# Altium integrated library Renesas Microprocessor SuperH.IntLib: 433 symbols (part 61 of 62)
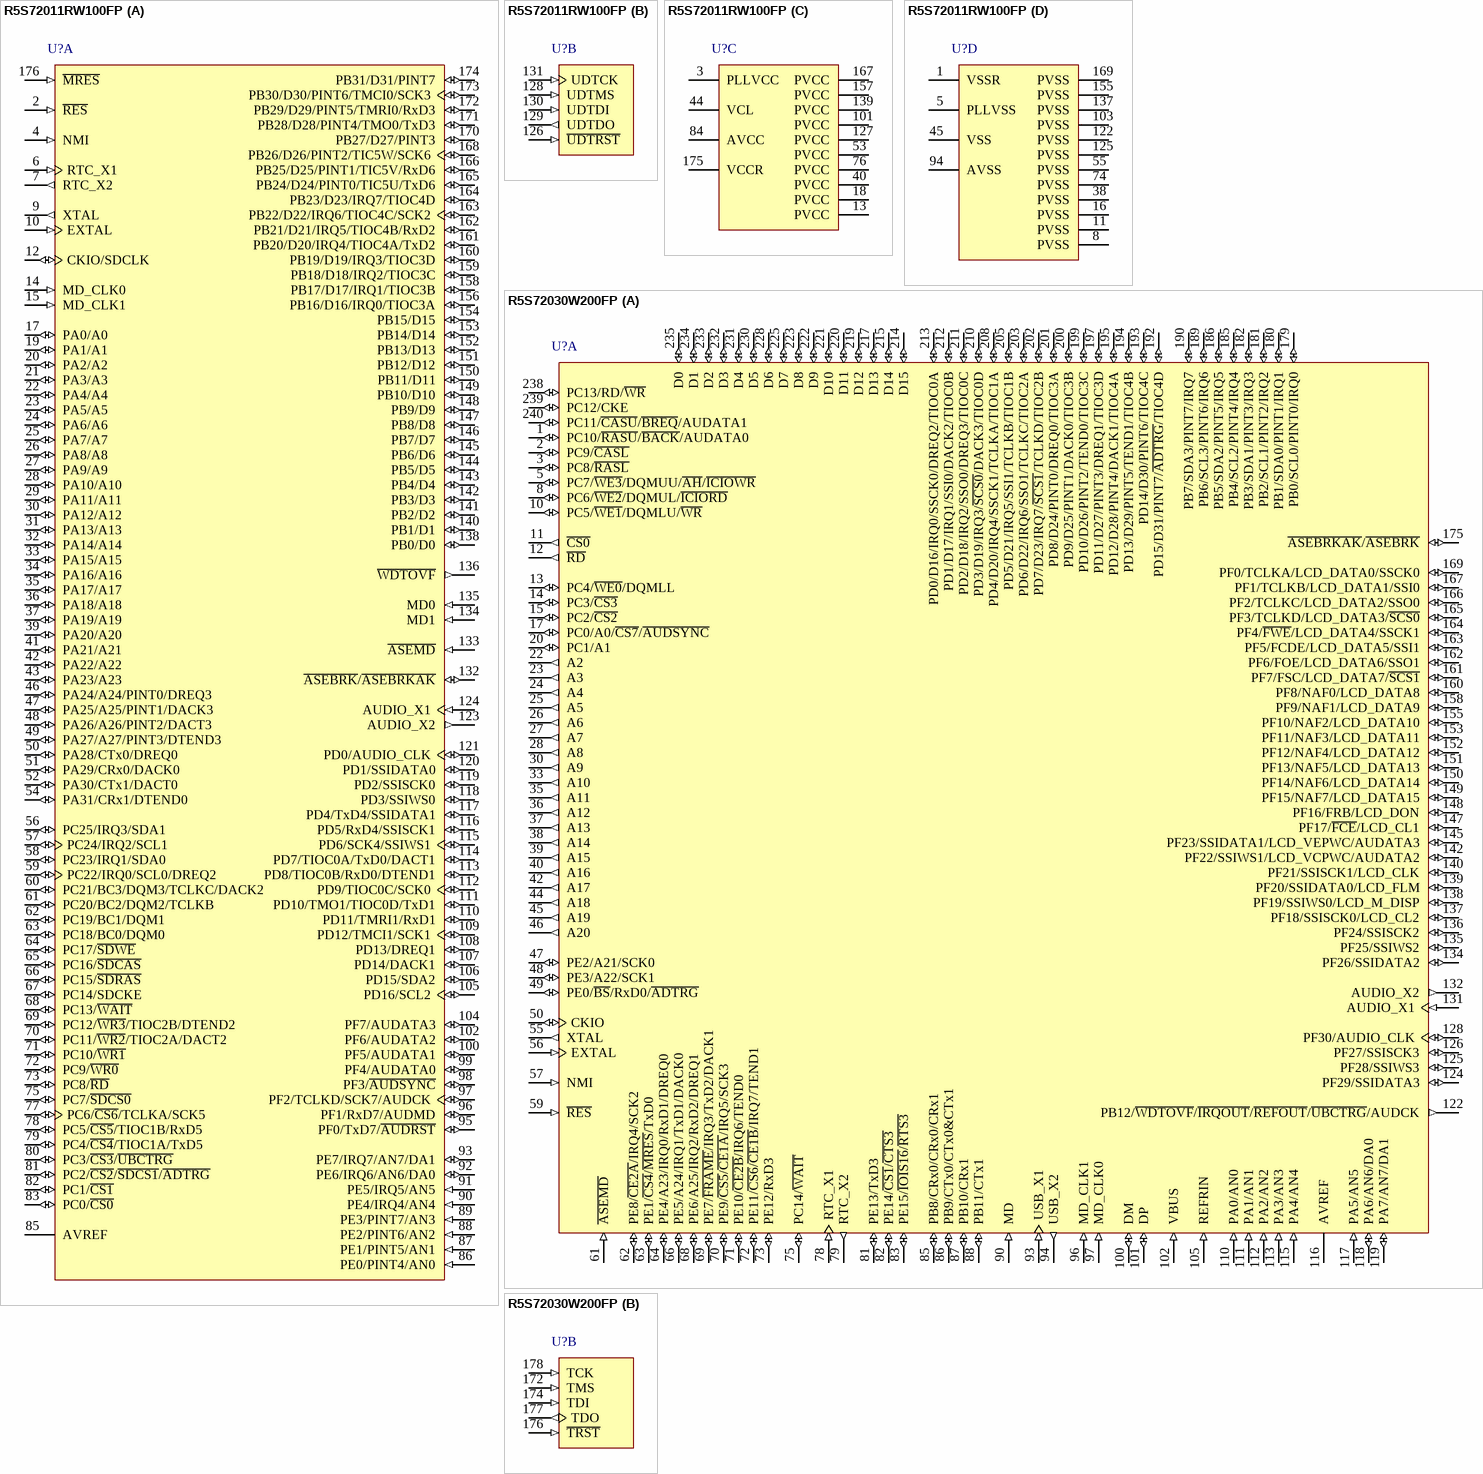
[diagram p316: symbols R5S72011RW100FP to R5S72030W200FP]

## R5S72011RW100FP
designator U?
32-Bit RISC Microcomputer, SH7200 Series, SH-2A core, 100MHz, 32K RAM, 24x24mm 176-pin PLQFP, -20 to 85°C; Published: 28-Aug-2009; DatasheetVersion: Rev.2.00, Sep-2007; PackageVersion: Oct-2005; PackageReference: PLQP0176KB-A; Publisher: Altium Limited; PackageDescription: 176-Pin Plastic Low Profile QFP, 24 x 24 x 1.4 mm Body, 0.5 mm Pitch; Code_JEITA: P-LQFP176-24x24-0.50; ComponentLink1Description: Manufacturer Link; ComponentLink1URL: http://www.renesas.com/fmwk.jsp?cnt=sh7201_root.jsp&fp=/products/mpumcu/superh_family/sh7200_series/sh7201_group/; ComponentLink2Description: Datasheet; ComponentLink2URL: http://documentation.renesas.com/eng/products/mpumcu/rej09b0321_sh7201hm.pdf; ComponentLink3Description: Packaging Specification; ComponentLink3URL: http://sg.renesas.com/media/products/common_info/package/pdf/ic/code/plqp0176kb_a.pdf
footprint PLQP0176KB-A_N (Shrink QFP, 176-Leads, Body 24x24mm, Pitch 0.5mm, IPC Medium Density)
footprint PLQP0176KB-A_L (Shrink QFP, 176-Leads, Body 24x24mm, Pitch 0.5mm, IPC High Density)
footprint PLQP0176KB-A_M (Shrink QFP, 176-Leads, Body 24x24mm, Pitch 0.5mm, IPC Low Density)
part A pins: 2 ~{RES} (in), 4 NMI (in), 6 RTC_X1 (in), 7 RTC_X2 (out), 9 XTAL (out), 10 EXTAL (in), 12 CKIO/SDCLK (io), 14 MD_CLK0 (in), 15 MD_CLK1 (in), 17 PA0/A0 (io), 19 PA1/A1 (io), 20 PA2/A2 (io), 21 PA3/A3 (io), 22 PA4/A4 (io), 23 PA5/A5 (io), 24 PA6/A6 (io), 25 PA7/A7 (io), 26 PA8/A8 (io), 27 PA9/A9 (io), 28 PA10/A10 (io), 29 PA11/A11 (io), 30 PA12/A12 (io), 31 PA13/A13 (io), 32 PA14/A14 (io), 33 PA15/A15 (io), 34 PA16/A16 (io), 35 PA17/A17 (io), 36 PA18/A18 (io), 37 PA19/A19 (io), 39 PA20/A20 (io), 41 PA21/A21 (io), 42 PA22/A22 (io), 43 PA23/A23 (io), 46 PA24/A24/PINT0/DREQ3 (io), 47 PA25/A25/PINT1/DACK3 (io), 48 PA26/A26/PINT2/DACT3 (io), 49 PA27/A27/PINT3/DTEND3 (io), 50 PA28/CTx0/DREQ0 (io), 51 PA29/CRx0/DACK0 (io), 52 PA30/CTx1/DACT0 (io), 54 PA31/CRx1/DTEND0 (io), 56 PC25/IRQ3/SDA1 (io), 57 PC24/IRQ2/SCL1 (io), 58 PC23/IRQ1/SDA0 (io), 59 PC22/IRQ0/SCL0/DREQ2 (io), 60 PC21/BC3/DQM3/TCLKC/DACK2 (io), 61 PC20/BC2/DQM2/TCLKB (io), 62 PC19/BC1/DQM1 (io), 63 PC18/BC0/DQM0 (io), 64 PC17/~{SDWE} (io), 65 PC16/~{SDCAS} (io), 66 PC15/~{SDRAS} (io), 67 PC14/SDCKE (io), 68 PC13/~{WAIT} (io), 69 PC12/~{WR3}/TIOC2B/DTEND2 (io), 70 PC11/~{WR2}/TIOC2A/DACT2 (io), 71 PC10/~{WR1} (io), 72 PC9/~{WR0} (io), 73 PC8/~{RD} (io), 75 PC7/~{SDCS0} (io), 77 PC6/~{CS6}/TCLKA/SCK5 (io), 78 PC5/~{CS5}/TIOC1B/RxD5 (io), 79 PC4/~{CS4}/TIOC1A/TxD5 (io), 80 PC3/~{CS3}/~{UBCTRG} (io), 81 PC2/~{CS2}/~{SDCS1}/~{ADTRG} (io), 82 PC1/~{CS1} (io), 83 PC0/~{CS0} (io), 85 AVREF (power), 86 PE0/PINT4/AN0 (in), 87 PE1/PINT5/AN1 (in), 88 PE2/PINT6/AN2 (in), 89 PE3/PINT7/AN3 (in), 90 PE4/IRQ4/AN4 (in), 91 PE5/IRQ5/AN5 (in), 92 PE6/IRQ6/AN6/DA0 (io), 93 PE7/IRQ7/AN7/DA1 (io), 95 PF0/TxD7/~{AUDRST} (io), 96 PF1/RxD7/AUDMD (io), 97 PF2/TCLKD/SCK7/AUDCK (io), 98 PF3/~{AUDSYNC} (io), 99 PF4/AUDATA0 (io), 100 PF5/AUDATA1 (io), 102 PF6/AUDATA2 (io), 104 PF7/AUDATA3 (io), 105 PD16/SCL2 (io), 106 PD15/SDA2 (io), 107 PD14/DACK1 (io), 108 PD13/DREQ1 (io), 109 PD12/TMCI1/SCK1 (io), 110 PD11/TMRI1/RxD1 (io), 111 PD10/TMO1/TIOC0D/TxD1 (io), 112 PD9/TIOC0C/SCK0 (io), 113 PD8/TIOC0B/RxD0/DTEND1 (io), 114 PD7/TIOC0A/TxD0/DACT1 (io), 115 PD6/SCK4/SSIWS1 (io), 116 PD5/RxD4/SSISCK1 (io), 117 PD4/TxD4/SSIDATA1 (io), 118 PD3/SSIWS0 (io), 119 PD2/SSISCK0 (io), 120 PD1/SSIDATA0 (io), 121 PD0/AUDIO_CLK (io), 123 AUDIO_X2 (out), 124 AUDIO_X1 (in), 132 ~{ASEBRK}/~{ASEBRKAK} (io), 133 ~{ASEMD} (in), 134 MD1 (in), 135 MD0 (in), 136 ~{WDTOVF} (out), 138 PB0/D0 (io), 140 PB1/D1 (io), 141 PB2/D2 (io), 142 PB3/D3 (io), 143 PB4/D4 (io), 144 PB5/D5 (io), 145 PB6/D6 (io), 146 PB7/D7 (io), 147 PB8/D8 (io), 148 PB9/D9 (io), 149 PB10/D10 (io), 150 PB11/D11 (io), 151 PB12/D12 (io), 152 PB13/D13 (io), 153 PB14/D14 (io), 154 PB15/D15 (io), 156 PB16/D16/IRQ0/TIOC3A (io), 158 PB17/D17/IRQ1/TIOC3B (io), 159 PB18/D18/IRQ2/TIOC3C (io), 160 PB19/D19/IRQ3/TIOC3D (io), 161 PB20/D20/IRQ4/TIOC4A/TxD2 (io), 162 PB21/D21/IRQ5/TIOC4B/RxD2 (io), 163 PB22/D22/IRQ6/TIOC4C/SCK2 (io), 164 PB23/D23/IRQ7/TIOC4D (io), 165 PB24/D24/PINT0/TIC5U/TxD6 (io), 166 PB25/D25/PINT1/TIC5V/RxD6 (io), 168 PB26/D26/PINT2/TIC5W/SCK6 (io), 170 PB27/D27/PINT3 (io), 171 PB28/D28/PINT4/TMO0/TxD3 (io), 172 PB29/D29/PINT5/TMRI0/RxD3 (io), 173 PB30/D30/PINT6/TMCI0/SCK3 (io), 174 PB31/D31/PINT7 (io), 176 ~{MRES} (in)
part B pins: 126 ~{UDTRST} (in), 128 UDTMS (in), 129 UDTDO (out), 130 UDTDI (in), 131 UDTCK (in)
part C pins: 3 PLLVCC (power), 13 PVCC (power), 18 PVCC (power), 40 PVCC (power), 44 VCL (power), 53 PVCC (power), 76 PVCC (power), 84 AVCC (power), 101 PVCC (power), 127 PVCC (power), 139 PVCC (power), 157 PVCC (power), 167 PVCC (power), 175 VCCR (power)
part D pins: 1 VSSR (power), 5 PLLVSS (power), 8 PVSS (power), 11 PVSS (power), 16 PVSS (power), 38 PVSS (power), 45 VSS (power), 55 PVSS (power), 74 PVSS (power), 94 AVSS (power), 103 PVSS (power), 122 PVSS (power), 125 PVSS (power), 137 PVSS (power), 155 PVSS (power), 169 PVSS (power)

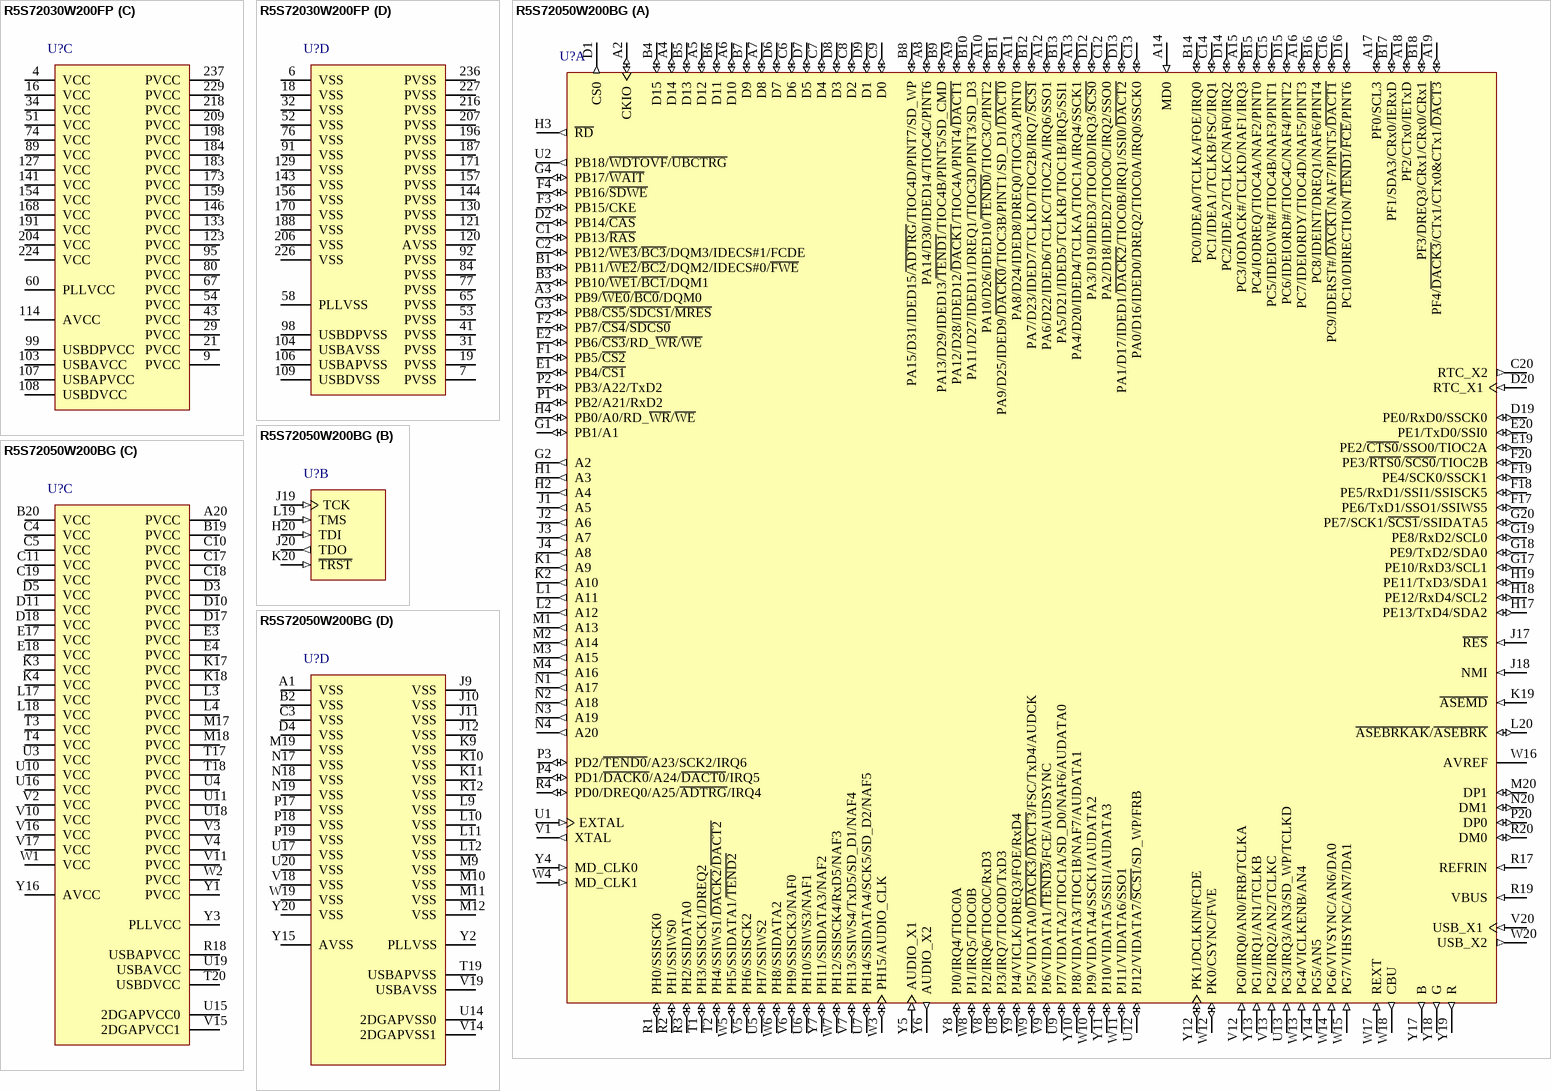
[diagram p205: symbols R5S72030W200FP to R5S72050W200BG]

## R5S72030W200FP
designator U?
32-Bit RISC Microcomputer, SH7200 Series, SH2A-FPU core, 200MHz, 80K RAM, 240-pin PQFP, -20 to 85°C; Published: 28-Aug-2009; LatestRevisionDate: 15-Feb-2010; LatestRevisionNote: Updated to datasheet revision 3.00 Sep-2009.; DatasheetVersion: Rev.3.00, Sep-2009; PackageVersion: Sep-2005; PackageReference: PRQP0240KC-A; Publisher: Altium Limited; PackageDescription: 240-Pin Plastic Quad Flat Pack, 32 x 32 x 3.2 mm Body, 0.5 mm Pitch; Supplier 1: Digi-Key; Supplier Part Number 1: R5S72030W200FP-ND; Code_JEITA: P-QFP240-32x32-0.50; ComponentLink1Description: Manufacturer Link; ComponentLink1URL: http://www.renesas.com/fmwk.jsp?cnt=sh7203_root.jsp&fp=/products/mpumcu/superh_family/sh7200_series/sh7203_group/; ComponentLink2Description: Datasheet; ComponentLink2URL: http://documentation.renesas.com/eng/products/mpumcu/rej09b0313_sh7203hm.pdf; ComponentLink3Description: Packaging Specification; ComponentLink3URL: http://sg.renesas.com/media/products/common_info/package/pdf/ic/code/prqp0240kc_a.pdf
footprint PRQP0240KC-A_N (Shrink QFP, 240-Leads, Body 32x32mm, Pitch 0.5mm, IPC Medium Density)
footprint PRQP0240KC-A_L (Shrink QFP, 240-Leads, Body 32x32mm, Pitch 0.5mm, IPC High Density)
footprint PRQP0240KC-A_M (Shrink QFP, 240-Leads, Body 32x32mm, Pitch 0.5mm, IPC Low Density)
part A pins: 1 PC10/~{RASU}/~{BACK}/AUDATA0 (io), 2 PC9/~{CASL} (io), 3 PC8/~{RASL} (io), 5 PC7/~{WE3}/DQMUU/~{AH}/~{ICIOWR} (io), 8 PC6/~{WE2}/DQMUL/~{ICIORD} (io), 10 PC5/~{WE1}/DQMLU/~{WR} (io), 11 ~{CS0} (out), 12 ~{RD} (out), 13 PC4/~{WE0}/DQMLL (io), 14 PC3/~{CS3} (io), 15 PC2/~{CS2} (io), 17 PC0/A0/~{CS7}/~{AUDSYNC} (io), 20 PC1/A1 (io), 22 A2 (out), 23 A3 (out), 24 A4 (out), 25 A5 (out), 26 A6 (out), 27 A7 (out), 28 A8 (out), 30 A9 (out), 33 A10 (out), 35 A11 (out), 36 A12 (out), 37 A13 (out), 38 A14 (out), 39 A15 (out), 40 A16 (out), 42 A17 (out), 44 A18 (out), 45 A19 (out), 46 A20 (out), 47 PE2/A21/SCK0 (io), 48 PE3/A22/SCK1 (io), 49 PE0/~{BS}/RxD0/~{ADTRG} (io), 50 CKIO (io), 55 XTAL (out), 56 EXTAL (in), 57 NMI (in), 59 ~{RES} (in), 61 ~{ASEMD} (in), 62 PE8/~{CE2A}/IRQ4/SCK2 (io), 63 PE1/~{CS4}/~{MRES}/TxD0 (io), 64 PE4/A23/IRQ0/RxD1/DREQ0 (io), 66 PE5/A24/IRQ1/TxD1/DACK0 (io), 68 PE6/A25/IRQ2/RxD2/DREQ1 (io), 69 PE7/~{FRAME}/IRQ3/TxD2/DACK1 (io), 70 PE9/~{CS5}/~{CE1A}/IRQ5/SCK3 (io), 71 PE10/~{CE2B}/IRQ6/TEND0 (io), 72 PE11/~{CS6}/~{CE1B}/IRQ7/TEND1 (io), 73 PE12/RxD3 (io), 75 PC14/~{WAIT} (io), 78 RTC_X1 (in), 79 RTC_X2 (out), 81 PE13/TxD3 (io), 82 PE14/~{CS1}/~{CTS3} (io), 83 PE15/~{IOIS16}/~{RTS3} (io), 85 PB8/CRx0/CRx0/CRx1 (io), 86 PB9/CTx0/CTx0&CTx1 (io), 87 PB10/CRx1 (io), 88 PB11/CTx1 (io), 90 MD (in), 93 USB_X1 (in), 94 USB_X2 (out), 96 MD_CLK1 (in), 97 MD_CLK0 (in), 100 DM (io), 101 DP (io), 102 VBUS (in), 105 REFRIN (in), 110 PA0/AN0 (in), 111 PA1/AN1 (in), 112 PA2/AN2 (in), 113 PA3/AN3 (in), 115 PA4/AN4 (in), 116 AVREF (power), 117 PA5/AN5 (in), 118 PA6/AN6/DA0 (io), 119 PA7/AN7/DA1 (io), 122 PB12/~{WDTOVF}/~{IRQOUT}/~{REFOUT}/~{UBCTRG}/AUDCK (out), 124 PF29/SSIDATA3 (io), 125 PF28/SSIWS3 (io), 126 PF27/SSISCK3 (io), 128 PF30/AUDIO_CLK (io), 131 AUDIO_X1 (in), 132 AUDIO_X2 (out), 134 PF26/SSIDATA2 (io), 135 PF25/SSIWS2 (io), 136 PF24/SSISCK2 (io), 137 PF18/SSISCK0/LCD_CL2 (io), 138 PF19/SSIWS0/LCD_M_DISP (io), 139 PF20/SSIDATA0/LCD_FLM (io), 140 PF21/SSISCK1/LCD_CLK (io), 142 PF22/SSIWS1/LCD_VCPWC/AUDATA2 (io), 145 PF23/SSIDATA1/LCD_VEPWC/AUDATA3 (io), 147 PF17/~{FCE}/LCD_CL1 (io), 148 PF16/FRB/LCD_DON (io), 149 PF15/NAF7/LCD_DATA15 (io), 150 PF14/NAF6/LCD_DATA14 (io), 151 PF13/NAF5/LCD_DATA13 (io), 152 PF12/NAF4/LCD_DATA12 (io), 153 PF11/NAF3/LCD_DATA11 (io), 155 PF10/NAF2/LCD_DATA10 (io), 158 PF9/NAF1/LCD_DATA9 (io), 160 PF8/NAF0/LCD_DATA8 (io), 161 PF7/FSC/LCD_DATA7/~{SCS1} (io), 162 PF6/FOE/LCD_DATA6/SSO1 (io), 163 PF5/FCDE/LCD_DATA5/SSI1 (io), 164 PF4/~{FWE}/LCD_DATA4/SSCK1 (io), 165 PF3/TCLKD/LCD_DATA3/~{SCS0} (io), 166 PF2/TCLKC/LCD_DATA2/SSO0 (io), 167 PF1/TCLKB/LCD_DATA1/SSI0 (io), 169 PF0/TCLKA/LCD_DATA0/SSCK0 (io), 175 ~{ASEBRKAK}/~{ASEBRK} (io), 179 PB0/SCL0/PINT0/IRQ0 (io), 180 PB1/SDA0/PINT1/IRQ1 (io), 181 PB2/SCL1/PINT2/IRQ2 (io), 182 PB3/SDA1/PINT3/IRQ3 (io), 185 PB4/SCL2/PINT4/IRQ4 (io), 186 PB5/SDA2/PINT5/IRQ5 (io), 189 PB6/SCL3/PINT6/IRQ6 (io), 190 PB7/SDA3/PINT7/IRQ7 (io), 192 PD15/D31/PINT7/~{ADTRG}/TIOC4D (io), 193 PD14/D30/PINT6/TIOC4C (io), 194 PD13/D29/PINT5/TEND1/TIOC4B (io), 195 PD12/D28/PINT4/DACK1/TIOC4A (io), 197 PD11/D27/PINT3/DREQ1/TIOC3D (io), 199 PD10/D26/PINT2/TEND0/TIOC3C (io), 200 PD9/D25/PINT1/DACK0/TIOC3B (io), 201 PD8/D24/PINT0/DREQ0/TIOC3A (io), 202 PD7/D23/IRQ7/~{SCS1}/TCLKD/TIOC2B (io), 203 PD6/D22/IRQ6/SSO1/TCLKC/TIOC2A (io), 205 PD5/D21/IRQ5/SSI1/TCLKB/TIOC1B (io), 208 PD4/D20/IRQ4/SSCK1/TCLKA/TIOC1A (io), 210 PD3/D19/IRQ3/~{SCS0}/DACK3/TIOC0D (io), 211 PD2/D18/IRQ2/SSO0/DREQ3/TIOC0C (io), 212 PD1/D17/IRQ1/SSI0/DACK2/TIOC0B (io), 213 PD0/D16/IRQ0/SSCK0/DREQ2/TIOC0A (io), 214 D15 (io), 215 D14 (io), 217 D13 (io), 219 D12 (io), 220 D11 (io), 221 D10 (io), 222 D9 (io), 223 D8 (io), 225 D7 (io), 228 D6 (io), 230 D5 (io), 231 D4 (io), 232 D3 (io), 233 D2 (io), 234 D1 (io), 235 D0 (io), 238 PC13/RD/~{WR} (io), 239 PC12/CKE (io), 240 PC11/~{CASU}/~{BREQ}/AUDATA1 (io)
part B pins: 172 TMS (in), 174 TDI (in), 176 ~{TRST} (in), 177 TDO (out), 178 TCK (in)
part C pins: 4 VCC (power), 9 PVCC (power), 16 VCC (power), 21 PVCC (power), 29 PVCC (power), 34 VCC (power), 43 PVCC (power), 51 VCC (power), 54 PVCC (power), 60 PLLVCC (power), 67 PVCC (power), 74 VCC (power), 80 PVCC (power), 89 VCC (power), 95 PVCC (power), 99 USBDPVCC (power), 103 USBAVCC (power), 107 USBAPVCC (power), 108 USBDVCC (power), 114 AVCC (power), 123 PVCC (power), 127 VCC (power), 133 PVCC (power), 141 VCC (power), 146 PVCC (power), 154 VCC (power), 159 PVCC (power), 168 VCC (power), 173 PVCC (power), 183 PVCC (power), 184 PVCC (power), 191 VCC (power), 198 PVCC (power), 204 VCC (power), 209 PVCC (power), 218 PVCC (power), 224 VCC (power), 229 PVCC (power), 237 PVCC (power)
part D pins: 6 VSS (power), 7 PVSS (power), 18 VSS (power), 19 PVSS (power), 31 PVSS (power), 32 VSS (power), 41 PVSS (power), 52 VSS (power), 53 PVSS (power), 58 PLLVSS (power), 65 PVSS (power), 76 VSS (power), 77 PVSS (power), 84 PVSS (power), 91 VSS (power), 92 PVSS (power), 98 USBDPVSS (power), 104 USBAVSS (power), 106 USBAPVSS (power), 109 USBDVSS (power), 120 AVSS (power), 121 PVSS (power), 129 VSS (power), 130 PVSS (power), 143 VSS (power), 144 PVSS (power), 156 VSS (power), 157 PVSS (power), 170 VSS (power), 171 PVSS (power), 187 PVSS (power), 188 VSS (power), 196 PVSS (power), 206 VSS (power), 207 PVSS (power), 216 PVSS (power), 226 VSS (power), 227 PVSS (power), 236 PVSS (power)

## R5S72050W200BG
designator U?
32-Bit RISC Microcomputer, SH7200 Series, SH2A-FPU core, 200MHz, 112K RAM, 272-pin BGA, -20 to 85°C; Published: 28-Aug-2009; DatasheetVersion: Rev.1.00, Mar-2008; PackageVersion: May-2007; PackageReference: PRBG0272GA-A; Publisher: Altium Limited; PackageDescription: 272-Ball Plastic Fine Pitch Ball Grid Array, 17 x 17 mm Body, 0.8 mm Pitch; Code_JEITA: P-FBGA272-17x17-0.80; ComponentLink1Description: Manufacturer Link; ComponentLink1URL: http://www.renesas.com/fmwk.jsp?cnt=sh7205_root.jsp&fp=/products/mpumcu/superh_family/sh7200_series/sh7205_group/; ComponentLink2Description: Datasheet; ComponentLink2URL: http://documentation.renesas.com/eng/products/mpumcu/rej09b0372_sh7205hm.pdf; ComponentLink3Description: Packaging Specification; ComponentLink3URL: http://sg.renesas.com/media/products/common_info/package/pdf/ic/code/prbg0272ga_a.pdf
footprint PRBG0272GA-A (BGA, 272-Leads, Body 17x17mm, Pitch 0.8mm)
part A pins: A2 CKIO (io), A3 PB9/~{WE0}/~{BC0}/DQM0 (io), A4 D14 (io), A5 D12 (io), A6 D10 (io), A7 D8 (io), A8 PA14/D30/IDED14/TIOC4C/PINT6 (io), A9 PA12/D28/IDED12/~{DACK1}/TIOC4A/PINT4/~{DACT1} (io), A10 PA10/D26/IDED10/~{TEND0}/TIOC3C/PINT2 (io), A11 PA8/D24/IDED8/DREQ0/TIOC3A/PINT0 (io), A12 PA6/D22/IDED6/TCLKC/TIOC2A/IRQ6/SSO1 (io), A13 PA4/D20/IDED4/TCLKA/TIOC1A/IRQ4/SSCK1 (io), A14 MD0 (in), A15 PC3/IODACK#/TCLKD/NAF1/IRQ3 (io), A16 PC7/IDEIORDY/TIOC4D/NAF5/PINT3 (io), A17 PF0/SCL3 (io), A18 PF2/CTx0/IETxD (io), A19 PF4/~{DACK3}/CTx1/CTx0&CTx1/~{DACT3} (io), B1 PB11/~{WE2}/~{BC2}/DQM2/IDECS#0/~{FWE} (io), B3 PB10/~{WE1}/~{BC1}/DQM1 (io), B4 D15 (io), B5 D13 (io), B6 D11 (io), B7 D9 (io), B8 PA15/D31/IDED15/~{ADTRG}/TIOC4D/PINT7/SD_WP (io), B9 PA13/D29/IDED13/~{TEND1}/TIOC4B/PINT5/SD_CMD (io), B10 PA11/D27/IDED11/DREQ1/TIOC3D/PINT3/SD_D3 (io), B11 PA9/D25/IDED9/~{DACK0}/TIOC3B/PINT1/SD_D1/~{DACT0} (io), B12 PA7/D23/IDED7/TCLKD/TIOC2B/IRQ7/~{SCS1} (io), B13 PA5/D21/IDED5/TCLKB/TIOC1B/IRQ5/SSI1 (io), B14 PC0/IDEA0/TCLKA/FOE/IRQ0 (io), B15 PC4/IODREQ/TIOC4A/NAF2/PINT0 (io), B16 PC8/IDEINT/DREQ1/NAF6/PINT4 (io), B17 PF1/SDA3/CRx0/IERxD (io), B18 PF3/DREQ3/CRx1/CRx0/CRx1 (io), C1 PB13/~{RAS} (io), C2 PB12/~{WE3}/~{BC3}/DQM3/IDECS#1/FCDE (io), C6 D6 (io), C7 D4 (io), C8 D2 (io), C9 D0 (io), C12 PA2/D18/IDED2/TIOC0C/IRQ2/SSO0 (io), C13 PA0/D16/IDED0/DREQ2/TIOC0A/IRQ0/SSCK0 (io), C14 PC1/IDEA1/TCLKB/FSC/IRQ1 (io), C15 PC5/IDEIOWR#/TIOC4B/NAF3/PINT1 (io), C16 PC9/IDERST#/~{DACK1}/NAF7/PINT5/~{DACT1} (io), C20 RTC_X2 (out), D1 CS0 (out), D2 PB14/~{CAS} (io), D6 D7 (io), D7 D5 (io), D8 D3 (io), D9 D1 (io), D12 PA3/D19/IDED3/TIOC0D/IRQ3/~{SCS0} (io), D13 PA1/D17/IDED1/~{DACK2}/TIOC0B/IRQ1/SSI0/~{DACT2} (io), D14 PC2/IDEA2/TCLKC/NAF0/IRQ2 (io), D15 PC6/IDEIORD#/TIOC4C/NAF4/PINT2 (io), D16 PC10/DIRECTION/~{TEND1}/~{FCE}/PINT6 (io), D19 PE0/RxD0/SSCK0 (io), D20 RTC_X1 (in), E1 PB4/~{CS1} (io), E2 PB6/~{CS3}/RD_~{WR}/~{WE} (io), E19 PE2/~{CTS0}/SSO0/TIOC2A (io), E20 PE1/TxD0/SSI0 (io), F1 PB5/~{CS2} (io), F2 PB7/~{CS4}/~{SDCS0} (io), F3 PB15/CKE (io), F4 PB16/~{SDWE} (io), F17 PE6/TxD1/SSO1/SSIWS5 (io), F18 PE5/RxD1/SSI1/SSISCK5 (io), F19 PE4/SCK0/SSCK1 (io), F20 PE3/~{RTS0}/~{SCS0}/TIOC2B (io), G1 PB1/A1 (io), G2 A2 (out), G3 PB8/~{CS5}/~{SDCS1}/~{MRES} (io), G4 PB17/~{WAIT} (io), G17 PE10/RxD3/SCL1 (io), G18 PE9/TxD2/SDA0 (io), G19 PE8/RxD2/SCL0 (io), G20 PE7/SCK1/~{SCS1}/SSIDATA5 (io), H1 A3 (out), H2 A4 (out), H3 ~{RD} (out), H4 PB0/A0/RD_~{WR}/~{WE} (io), H17 PE13/TxD4/SDA2 (io), H18 PE12/RxD4/SCL2 (io), H19 PE11/TxD3/SDA1 (io), J1 A5 (out), J2 A6 (out), J3 A7 (out), J4 A8 (out), J17 ~{RES} (in), J18 NMI (in), K1 A9 (out), K2 A10 (out), K19 ~{ASEMD} (in), L1 A11 (out), L2 A12 (out), L20 ~{ASEBRKAK}/~{ASEBRK} (io), M1 A13 (out), M2 A14 (out), M3 A15 (out), M4 A16 (out), M20 DP1 (io), N1 A17 (out), N2 A18 (out), N3 A19 (out), N4 A20 (out), N20 DM1 (io), P1 PB2/A21/RxD2 (io), P2 PB3/A22/TxD2 (io), P3 PD2/~{TEND0}/A23/SCK2/IRQ6 (io), P4 PD1/~{DACK0}/A24/~{DACT0}/IRQ5 (io), P20 DP0 (io), R1 PH0/SSISCK0 (io), R2 PH1/SSIWS0 (io), R3 PH2/SSIDATA0 (io), R4 PD0/DREQ0/A25/~{ADTRG}/IRQ4 (io), R17 REFRIN (in), R19 VBUS (in), R20 DM0 (io), T1 PH3/SSISCK1/DREQ2 (io), T2 PH4/SSIWS1/~{DACK2}/~{DACT2} (io), U1 EXTAL (in), U2 PB18/~{WDTOVF}/~{UBCTRG} (out), U5 PH7/SSIWS2 (io), U6 PH10/SSIWS3/NAF1 (io), U7 PH14/SSIDATA4/SCK5/SD_D2/NAF5 (io), U8 PJ3/IRQ7/TIOC0D/TxD3 (io), U9 PJ7/VIDATA2/TIOC1A/SD_D0/NAF6/AUDATA0 (io), U12 PJ12/VIDATA7/~{SCS1}/SD_WP/FRB (io), U13 PG3/IRQ3/AN3/SD_WP/TCLKD (in), V1 XTAL (out), V5 PH6/SSISCK2 (io), V6 PH9/SSISCK3/NAF0 (io), V7 PH13/SSIWS4/TxD5/SD_D1/NAF4 (io), V8 PJ2/IRQ6/TIOC0C/RxD3 (io), V9 PJ6/VIDATA1/~{TEND3}/FCE/AUDSYNC (io), V12 PG0/IRQ0/AN0/FRB/TCLKA (in), V13 PG2/IRQ2/AN2/TCLKC (in), V20 USB_X1 (in), W3 PH15/AUDIO_CLK (io), W4 MD_CLK1 (in), W5 PH5/SSIDATA1/~{TEND2} (io), W6 PH8/SSIDATA2 (io), W7 PH12/SSISCK4/RxD5/NAF3 (io), W8 PJ1/IRQ5/TIOC0B (io), W9 PJ5/VIDATA0/~{DACK3}/~{DACT3}/FSC/TxD4/AUDCK (io), W10 PJ9/VIDATA4/SSCK1/AUDATA2 (io), W11 PJ11/VIDATA6/SSO1 (io), W12 PK0/CSYNC/FWE (io), W13 PG4/VICLKENB/AN4 (in), W14 PG6/VIVSYNC/AN6/DA0 (in), W15 PG7/VIHSYNC/AN7/DA1 (in), W16 AVREF (power), W17 REXT (in), W18 CBU (out), W20 USB_X2 (out), Y4 MD_CLK0 (in), Y5 AUDIO_X1 (in), Y6 AUDIO_X2 (out), Y7 PH11/SSIDATA3/NAF2 (io), Y8 PJ0/IRQ4/TIOC0A (io), Y9 PJ4/VICLK/DREQ3/FOE/RxD4 (io), Y10 PJ8/VIDATA3/TIOC1B/NAF7/AUDATA1 (io), Y11 PJ10/VIDATA5/SSI1/AUDATA3 (io), Y12 PK1/DCLKIN/FCDE (io), Y13 PG1/IRQ1/AN1/TCLKB (in), Y14 PG5/AN5 (in), Y17 B (out), Y18 G (out), Y19 R (out)
part B pins: H20 TDI (in), J19 TCK (in), J20 TDO (out), K20 ~{TRST} (in), L19 TMS (in)
part C pins: A20 PVCC (power), B19 PVCC (power), B20 VCC (power), C4 VCC (power), C5 VCC (power), C10 PVCC (power), C11 VCC (power), C17 PVCC (power), C18 PVCC (power), C19 VCC (power), D3 PVCC (power), D5 VCC (power), D10 PVCC (power), D11 VCC (power), D17 PVCC (power), D18 VCC (power), E3 PVCC (power), E4 PVCC (power), E17 VCC (power), E18 VCC (power), K3 VCC (power), K4 VCC (power), K17 PVCC (power), K18 PVCC (power), L3 PVCC (power), L4 PVCC (power), L17 VCC (power), L18 VCC (power), M17 PVCC (power), M18 PVCC (power), R18 USBAPVCC (power), T3 VCC (power), T4 VCC (power), T17 PVCC (power), T18 PVCC (power), T20 USBDVCC (power), U3 VCC (power), U4 PVCC (power), U10 VCC (power), U11 PVCC (power), U15 2DGAPVCC0 (power), U16 VCC (power), U18 PVCC (power), U19 USBAVCC (power), V2 VCC (power), V3 PVCC (power), V4 PVCC (power), V10 VCC (power), V11 PVCC (power), V15 2DGAPVCC1 (power), V16 VCC (power), V17 VCC (power), W1 VCC (power), W2 PVCC (power), Y1 PVCC (power), Y3 PLLVCC (power), Y16 AVCC (power)
part D pins: A1 VSS (power), B2 VSS (power), C3 VSS (power), D4 VSS (power), J9 VSS (power), J10 VSS (power), J11 VSS (power), J12 VSS (power), K9 VSS (power), K10 VSS (power), K11 VSS (power), K12 VSS (power), L9 VSS (power), L10 VSS (power), L11 VSS (power), L12 VSS (power), M9 VSS (power), M10 VSS (power), M11 VSS (power), M12 VSS (power), M19 VSS (power), N17 VSS (power), N18 VSS (power), N19 VSS (power), P17 VSS (power), P18 VSS (power), P19 VSS (power), T19 USBAPVSS (power), U14 2DGAPVSS0 (power), U17 VSS (power), U20 VSS (power), V14 2DGAPVSS1 (power), V18 VSS (power), V19 USBAVSS (power), W19 VSS (power), Y2 PLLVSS (power), Y15 AVSS (power), Y20 VSS (power)

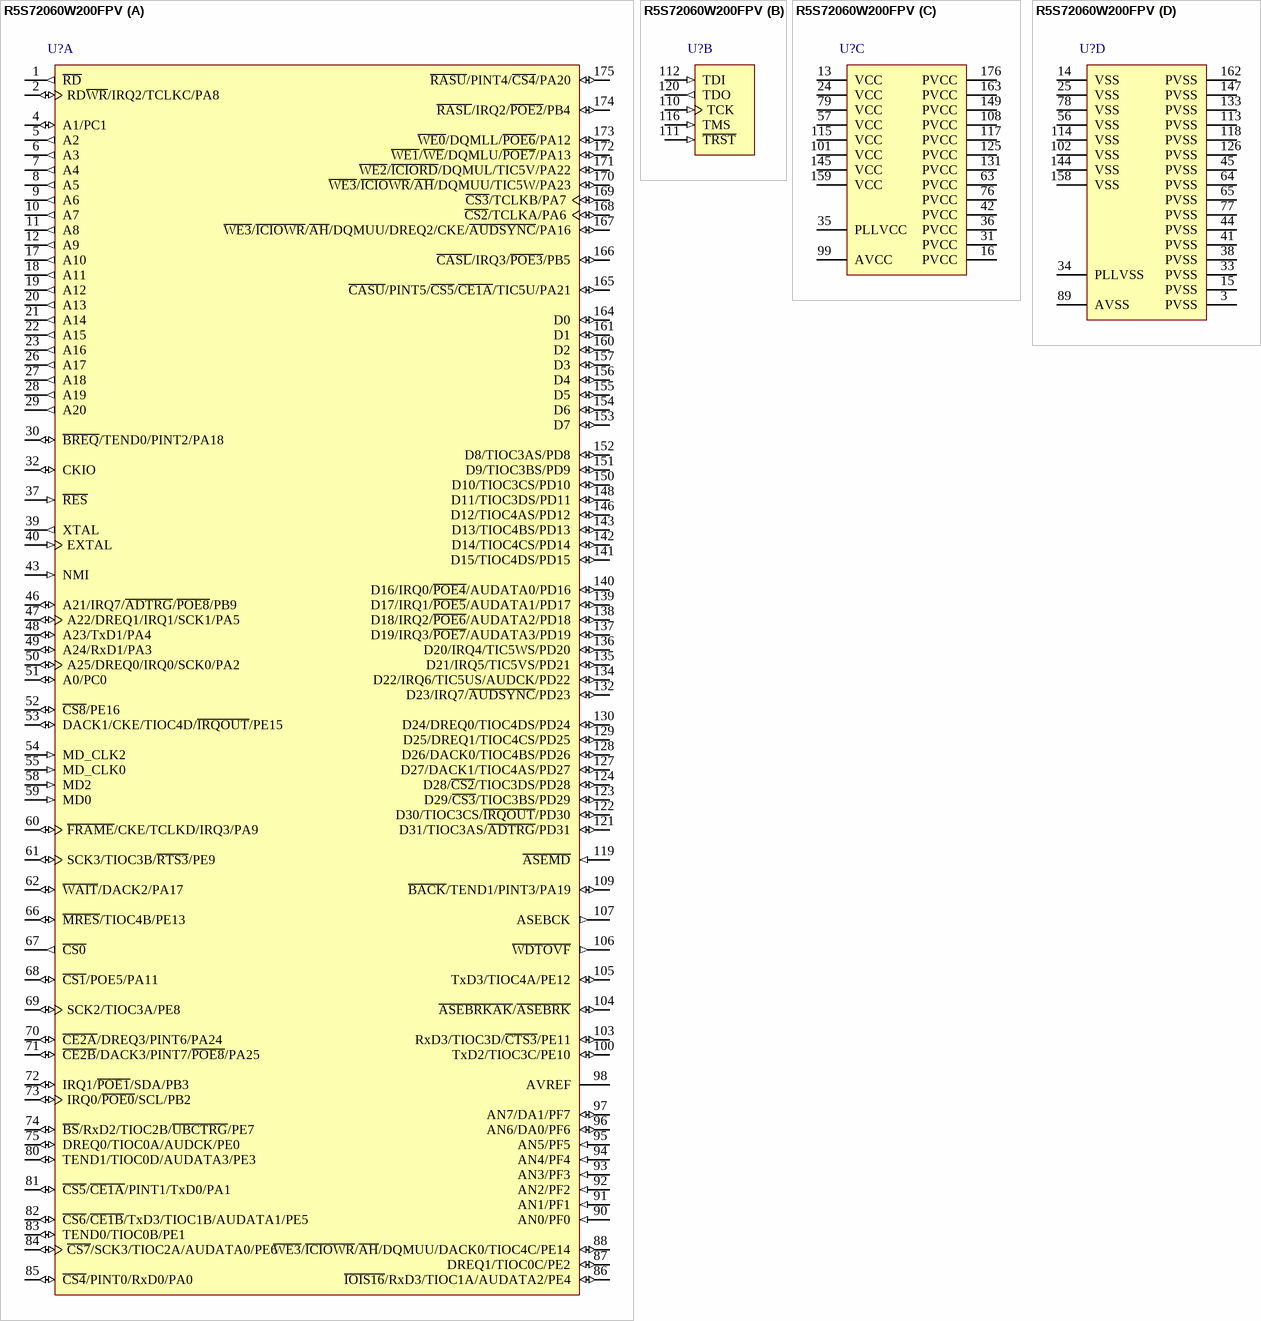
[diagram p206: symbol R5S72060W200FPV]

## R5S72060W200FPV
designator U?
32-Bit RISC Microcomputer, SH7200 Series, SH-2A core, 200MHz, 128K RAM, 176-pin LQFP, -20 to 85°C; Published: 28-Aug-2009; DatasheetVersion: Rev.3.00, Jun-2008; PackageVersion: Sep-2005; PackageReference: PLQP0176KD-A; Publisher: Altium Limited; PackageDescription: 176-Pin Plastic Low Profile QFP, 24 x 24 x 1.4 mm Body, 0.5 mm Pitch; Supplier 1: Farnell; Supplier Part Number 1: 1172315; Code_JEITA: P-LQFP176-24x24-0.50; ComponentLink1Description: Manufacturer Link; ComponentLink1URL: http://www.renesas.com/fmwk.jsp?cnt=sh7206_root.jsp&fp=/products/mpumcu/superh_family/sh7200_series/sh7206_group/; ComponentLink2Description: Datasheet; ComponentLink2URL: http://documentation.renesas.com/eng/products/mpumcu/rej09b0191_sh7206.pdf; ComponentLink3Description: Packaging Specification; ComponentLink3URL: http://sg.renesas.com/media/products/common_info/package/pdf/ic/code/plqp0176kd_a.pdf
footprint PLQP0176KD-A_N (Shrink QFP, 176-Leads, Body 24x24mm, Pitch 0.5mm, IPC Medium Density)
footprint PLQP0176KD-A_L (Shrink QFP, 176-Leads, Body 24x24mm, Pitch 0.5mm, IPC High Density)
footprint PLQP0176KD-A_M (Shrink QFP, 176-Leads, Body 24x24mm, Pitch 0.5mm, IPC Low Density)
part A pins: 1 ~{RD} (out), 2 RD~{WR}/IRQ2/TCLKC/PA8 (io), 4 A1/PC1 (io), 5 A2 (out), 6 A3 (out), 7 A4 (out), 8 A5 (out), 9 A6 (out), 10 A7 (out), 11 A8 (out), 12 A9 (out), 17 A10 (out), 18 A11 (out), 19 A12 (out), 20 A13 (out), 21 A14 (out), 22 A15 (out), 23 A16 (out), 26 A17 (out), 27 A18 (out), 28 A19 (out), 29 A20 (out), 30 ~{BREQ}/TEND0/PINT2/PA18 (io), 32 CKIO (io), 37 ~{RES} (in), 39 XTAL (out), 40 EXTAL (in), 43 NMI (in), 46 A21/IRQ7/~{ADTRG}/~{POE8}/PB9 (io), 47 A22/DREQ1/IRQ1/SCK1/PA5 (io), 48 A23/TxD1/PA4 (io), 49 A24/RxD1/PA3 (io), 50 A25/DREQ0/IRQ0/SCK0/PA2 (io), 51 A0/PC0 (io), 52 ~{CS8}/PE16 (io), 53 DACK1/CKE/TIOC4D/~{IRQOUT}/PE15 (io), 54 MD_CLK2 (in), 55 MD_CLK0 (in), 58 MD2 (in), 59 MD0 (in), 60 ~{FRAME}/CKE/TCLKD/IRQ3/PA9 (io), 61 SCK3/TIOC3B/~{RTS3}/PE9 (io), 62 ~{WAIT}/DACK2/PA17 (io), 66 ~{MRES}/TIOC4B/PE13 (io), 67 ~{CS0} (out), 68 ~{CS1}/POE5/PA11 (io), 69 SCK2/TIOC3A/PE8 (io), 70 ~{CE2A}/DREQ3/PINT6/PA24 (io), 71 ~{CE2B}/DACK3/PINT7/~{POE8}/PA25 (io), 72 IRQ1/~{POE1}/SDA/PB3 (io), 73 IRQ0/~{POE0}/SCL/PB2 (io), 74 ~{BS}/RxD2/TIOC2B/~{UBCTRG}/PE7 (io), 75 DREQ0/TIOC0A/AUDCK/PE0 (io), 80 TEND1/TIOC0D/AUDATA3/PE3 (io), 81 ~{CS5}/~{CE1A}/PINT1/TxD0/PA1 (io), 82 ~{CS6}/~{CE1B}/TxD3/TIOC1B/AUDATA1/PE5 (io), 83 TEND0/TIOC0B/PE1 (io), 84 ~{CS7}/SCK3/TIOC2A/AUDATA0/PE6 (io), 85 ~{CS4}/PINT0/RxD0/PA0 (io), 86 ~{IOIS16}/RxD3/TIOC1A/AUDATA2/PE4 (io), 87 DREQ1/TIOC0C/PE2 (io), 88 ~{WE3}/~{ICIOWR}/~{AH}/DQMUU/DACK0/TIOC4C/PE14 (io), 90 AN0/PF0 (in), 91 AN1/PF1 (in), 92 AN2/PF2 (in), 93 AN3/PF3 (in), 94 AN4/PF4 (in), 95 AN5/PF5 (in), 96 AN6/DA0/PF6 (io), 97 AN7/DA1/PF7 (io), 98 AVREF (power), 100 TxD2/TIOC3C/PE10 (io), 103 RxD3/TIOC3D/~{CTS3}/PE11 (io), 104 ~{ASEBRKAK}/~{ASEBRK} (io), 105 TxD3/TIOC4A/PE12 (io), 106 ~{WDTOVF} (out), 107 ASEBCK (out), 109 ~{BACK}/TEND1/PINT3/PA19 (io), 119 ~{ASEMD} (in), 121 D31/TIOC3AS/~{ADTRG}/PD31 (io), 122 D30/TIOC3CS/~{IRQOUT}/PD30 (io), 123 D29/~{CS3}/TIOC3BS/PD29 (io), 124 D28/~{CS2}/TIOC3DS/PD28 (io), 127 D27/DACK1/TIOC4AS/PD27 (io), 128 D26/DACK0/TIOC4BS/PD26 (io), 129 D25/DREQ1/TIOC4CS/PD25 (io), 130 D24/DREQ0/TIOC4DS/PD24 (io), 132 D23/IRQ7/~{AUDSYNC}/PD23 (io), 134 D22/IRQ6/TIC5US/AUDCK/PD22 (io), 135 D21/IRQ5/TIC5VS/PD21 (io), 136 D20/IRQ4/TIC5WS/PD20 (io), 137 D19/IRQ3/~{POE7}/AUDATA3/PD19 (io), 138 D18/IRQ2/~{POE6}/AUDATA2/PD18 (io), 139 D17/IRQ1/~{POE5}/AUDATA1/PD17 (io), 140 D16/IRQ0/~{POE4}/AUDATA0/PD16 (io), 141 D15/TIOC4DS/PD15 (io), 142 D14/TIOC4CS/PD14 (io), 143 D13/TIOC4BS/PD13 (io), 146 D12/TIOC4AS/PD12 (io), 148 D11/TIOC3DS/PD11 (io), 150 D10/TIOC3CS/PD10 (io), 151 D9/TIOC3BS/PD9 (io), 152 D8/TIOC3AS/PD8 (io), 153 D7 (io), 154 D6 (io), 155 D5 (io), 156 D4 (io), 157 D3 (io), 160 D2 (io), 161 D1 (io), 164 D0 (io), 165 ~{CASU}/PINT5/~{CS5}/~{CE1A}/TIC5U/PA21 (io), 166 ~{CASL}/IRQ3/~{POE3}/PB5 (io), 167 ~{WE3}/~{ICIOWR}/~{AH}/DQMUU/DREQ2/CKE/~{AUDSYNC}/PA16 (io), 168 ~{CS2}/TCLKA/PA6 (io), 169 ~{CS3}/TCLKB/PA7 (io), 170 ~{WE3}/~{ICIOWR}/~{AH}/DQMUU/TIC5W/PA23 (io), 171 ~{WE2}/~{ICIORD}/DQMUL/TIC5V/PA22 (io), 172 ~{WE1}/~{WE}/DQMLU/~{POE7}/PA13 (io), 173 ~{WE0}/DQMLL/~{POE6}/PA12 (io), 174 ~{RASL}/IRQ2/~{POE2}/PB4 (io), 175 ~{RASU}/PINT4/~{CS4}/PA20 (io)
part B pins: 110 TCK (in), 111 ~{TRST} (in), 112 TDI (in), 116 TMS (in), 120 TDO (out)
part C pins: 13 VCC (power), 16 PVCC (power), 24 VCC (power), 31 PVCC (power), 35 PLLVCC (power), 36 PVCC (power), 42 PVCC (power), 57 VCC (power), 63 PVCC (power), 76 PVCC (power), 79 VCC (power), 99 AVCC (power), 101 VCC (power), 108 PVCC (power), 115 VCC (power), 117 PVCC (power), 125 PVCC (power), 131 PVCC (power), 145 VCC (power), 149 PVCC (power), 159 VCC (power), 163 PVCC (power), 176 PVCC (power)
part D pins: 3 PVSS (power), 14 VSS (power), 15 PVSS (power), 25 VSS (power), 33 PVSS (power), 34 PLLVSS (power), 38 PVSS (power), 41 PVSS (power), 44 PVSS (power), 45 PVSS (power), 56 VSS (power), 64 PVSS (power), 65 PVSS (power), 77 PVSS (power), 78 VSS (power), 89 AVSS (power), 102 VSS (power), 113 PVSS (power), 114 VSS (power), 118 PVSS (power), 126 PVSS (power), 133 PVSS (power), 144 VSS (power), 147 PVSS (power), 158 VSS (power), 162 PVSS (power)

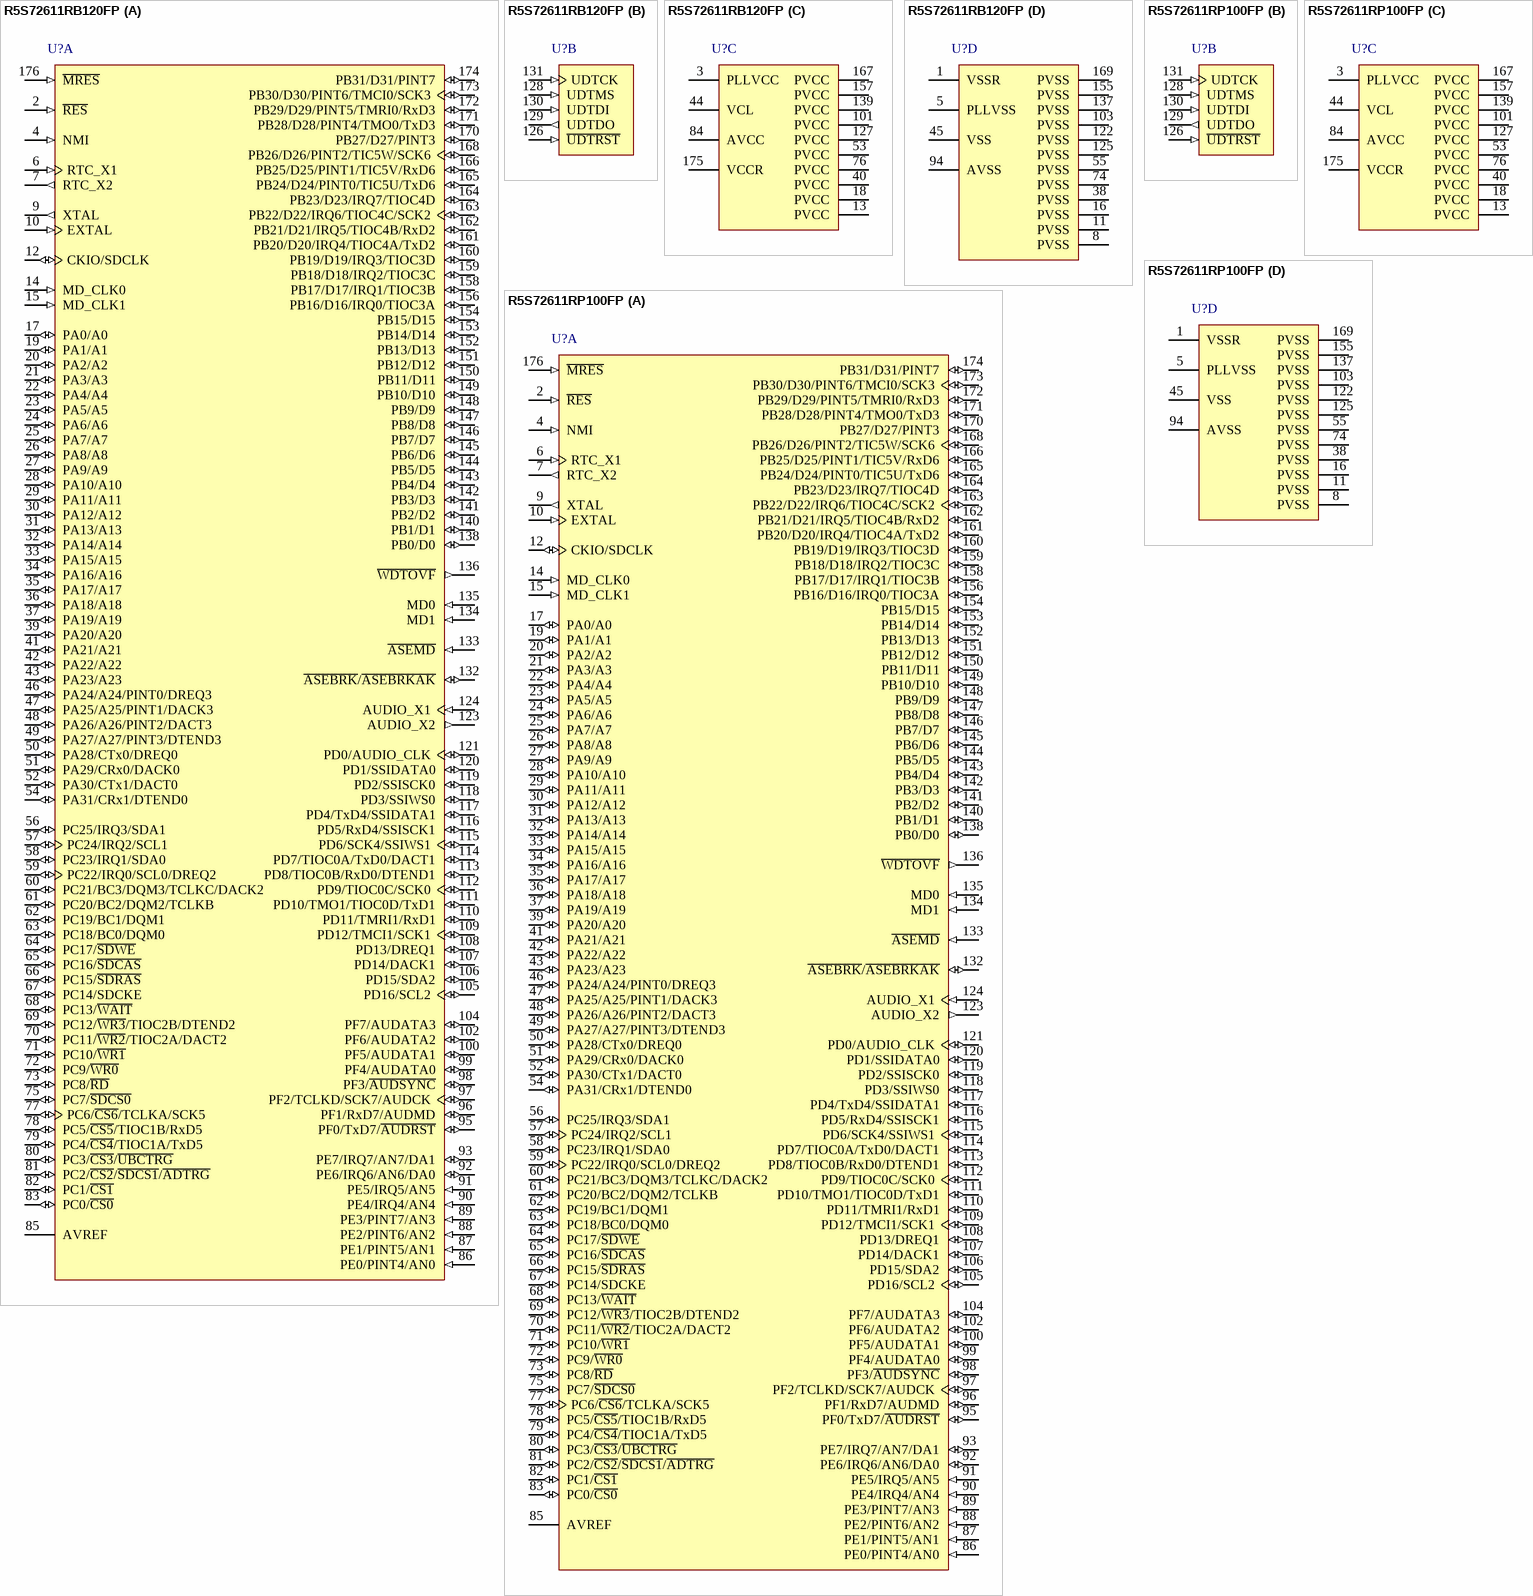
[diagram p207: symbols R5S72611RB120FP to R5S72611RP100FP]

## R5S72611RB120FP
designator U?
32-Bit RISC Microcomputer, SH7260 Series, SH-2A core, 120MHz, 32K RAM, 24x24mm 176-pin PLQFP, -20 to 70°C; Published: 28-Aug-2009; DatasheetVersion: Rev.2.00, Sep-2007; PackageVersion: Oct-2005; PackageReference: PLQP0176KB-A; Publisher: Altium Limited; PackageDescription: 176-Pin Plastic Low Profile QFP, 24 x 24 x 1.4 mm Body, 0.5 mm Pitch; Code_JEITA: P-LQFP176-24x24-0.50; ComponentLink1Description: Manufacturer Link; ComponentLink1URL: http://www.renesas.com/fmwk.jsp?cnt=sh7261_root.jsp&fp=/products/mpumcu/superh_family/sh7260_series/sh7261_group/; ComponentLink2Description: Datasheet; ComponentLink2URL: http://documentation.renesas.com/eng/products/mpumcu/rej09b0320_sh7261hm.pdf; ComponentLink3Description: Packaging Specification; ComponentLink3URL: http://sg.renesas.com/media/products/common_info/package/pdf/ic/code/plqp0176kb_a.pdf
footprint PLQP0176KB-A_N (Shrink QFP, 176-Leads, Body 24x24mm, Pitch 0.5mm, IPC Medium Density)
footprint PLQP0176KB-A_L (Shrink QFP, 176-Leads, Body 24x24mm, Pitch 0.5mm, IPC High Density)
footprint PLQP0176KB-A_M (Shrink QFP, 176-Leads, Body 24x24mm, Pitch 0.5mm, IPC Low Density)
part A pins: 2 ~{RES} (in), 4 NMI (in), 6 RTC_X1 (in), 7 RTC_X2 (out), 9 XTAL (out), 10 EXTAL (in), 12 CKIO/SDCLK (io), 14 MD_CLK0 (in), 15 MD_CLK1 (in), 17 PA0/A0 (io), 19 PA1/A1 (io), 20 PA2/A2 (io), 21 PA3/A3 (io), 22 PA4/A4 (io), 23 PA5/A5 (io), 24 PA6/A6 (io), 25 PA7/A7 (io), 26 PA8/A8 (io), 27 PA9/A9 (io), 28 PA10/A10 (io), 29 PA11/A11 (io), 30 PA12/A12 (io), 31 PA13/A13 (io), 32 PA14/A14 (io), 33 PA15/A15 (io), 34 PA16/A16 (io), 35 PA17/A17 (io), 36 PA18/A18 (io), 37 PA19/A19 (io), 39 PA20/A20 (io), 41 PA21/A21 (io), 42 PA22/A22 (io), 43 PA23/A23 (io), 46 PA24/A24/PINT0/DREQ3 (io), 47 PA25/A25/PINT1/DACK3 (io), 48 PA26/A26/PINT2/DACT3 (io), 49 PA27/A27/PINT3/DTEND3 (io), 50 PA28/CTx0/DREQ0 (io), 51 PA29/CRx0/DACK0 (io), 52 PA30/CTx1/DACT0 (io), 54 PA31/CRx1/DTEND0 (io), 56 PC25/IRQ3/SDA1 (io), 57 PC24/IRQ2/SCL1 (io), 58 PC23/IRQ1/SDA0 (io), 59 PC22/IRQ0/SCL0/DREQ2 (io), 60 PC21/BC3/DQM3/TCLKC/DACK2 (io), 61 PC20/BC2/DQM2/TCLKB (io), 62 PC19/BC1/DQM1 (io), 63 PC18/BC0/DQM0 (io), 64 PC17/~{SDWE} (io), 65 PC16/~{SDCAS} (io), 66 PC15/~{SDRAS} (io), 67 PC14/SDCKE (io), 68 PC13/~{WAIT} (io), 69 PC12/~{WR3}/TIOC2B/DTEND2 (io), 70 PC11/~{WR2}/TIOC2A/DACT2 (io), 71 PC10/~{WR1} (io), 72 PC9/~{WR0} (io), 73 PC8/~{RD} (io), 75 PC7/~{SDCS0} (io), 77 PC6/~{CS6}/TCLKA/SCK5 (io), 78 PC5/~{CS5}/TIOC1B/RxD5 (io), 79 PC4/~{CS4}/TIOC1A/TxD5 (io), 80 PC3/~{CS3}/~{UBCTRG} (io), 81 PC2/~{CS2}/~{SDCS1}/~{ADTRG} (io), 82 PC1/~{CS1} (io), 83 PC0/~{CS0} (io), 85 AVREF (power), 86 PE0/PINT4/AN0 (in), 87 PE1/PINT5/AN1 (in), 88 PE2/PINT6/AN2 (in), 89 PE3/PINT7/AN3 (in), 90 PE4/IRQ4/AN4 (in), 91 PE5/IRQ5/AN5 (in), 92 PE6/IRQ6/AN6/DA0 (io), 93 PE7/IRQ7/AN7/DA1 (io), 95 PF0/TxD7/~{AUDRST} (io), 96 PF1/RxD7/AUDMD (io), 97 PF2/TCLKD/SCK7/AUDCK (io), 98 PF3/~{AUDSYNC} (io), 99 PF4/AUDATA0 (io), 100 PF5/AUDATA1 (io), 102 PF6/AUDATA2 (io), 104 PF7/AUDATA3 (io), 105 PD16/SCL2 (io), 106 PD15/SDA2 (io), 107 PD14/DACK1 (io), 108 PD13/DREQ1 (io), 109 PD12/TMCI1/SCK1 (io), 110 PD11/TMRI1/RxD1 (io), 111 PD10/TMO1/TIOC0D/TxD1 (io), 112 PD9/TIOC0C/SCK0 (io), 113 PD8/TIOC0B/RxD0/DTEND1 (io), 114 PD7/TIOC0A/TxD0/DACT1 (io), 115 PD6/SCK4/SSIWS1 (io), 116 PD5/RxD4/SSISCK1 (io), 117 PD4/TxD4/SSIDATA1 (io), 118 PD3/SSIWS0 (io), 119 PD2/SSISCK0 (io), 120 PD1/SSIDATA0 (io), 121 PD0/AUDIO_CLK (io), 123 AUDIO_X2 (out), 124 AUDIO_X1 (in), 132 ~{ASEBRK}/~{ASEBRKAK} (io), 133 ~{ASEMD} (in), 134 MD1 (in), 135 MD0 (in), 136 ~{WDTOVF} (out), 138 PB0/D0 (io), 140 PB1/D1 (io), 141 PB2/D2 (io), 142 PB3/D3 (io), 143 PB4/D4 (io), 144 PB5/D5 (io), 145 PB6/D6 (io), 146 PB7/D7 (io), 147 PB8/D8 (io), 148 PB9/D9 (io), 149 PB10/D10 (io), 150 PB11/D11 (io), 151 PB12/D12 (io), 152 PB13/D13 (io), 153 PB14/D14 (io), 154 PB15/D15 (io), 156 PB16/D16/IRQ0/TIOC3A (io), 158 PB17/D17/IRQ1/TIOC3B (io), 159 PB18/D18/IRQ2/TIOC3C (io), 160 PB19/D19/IRQ3/TIOC3D (io), 161 PB20/D20/IRQ4/TIOC4A/TxD2 (io), 162 PB21/D21/IRQ5/TIOC4B/RxD2 (io), 163 PB22/D22/IRQ6/TIOC4C/SCK2 (io), 164 PB23/D23/IRQ7/TIOC4D (io), 165 PB24/D24/PINT0/TIC5U/TxD6 (io), 166 PB25/D25/PINT1/TIC5V/RxD6 (io), 168 PB26/D26/PINT2/TIC5W/SCK6 (io), 170 PB27/D27/PINT3 (io), 171 PB28/D28/PINT4/TMO0/TxD3 (io), 172 PB29/D29/PINT5/TMRI0/RxD3 (io), 173 PB30/D30/PINT6/TMCI0/SCK3 (io), 174 PB31/D31/PINT7 (io), 176 ~{MRES} (in)
part B pins: 126 ~{UDTRST} (in), 128 UDTMS (in), 129 UDTDO (out), 130 UDTDI (in), 131 UDTCK (in)
part C pins: 3 PLLVCC (power), 13 PVCC (power), 18 PVCC (power), 40 PVCC (power), 44 VCL (power), 53 PVCC (power), 76 PVCC (power), 84 AVCC (power), 101 PVCC (power), 127 PVCC (power), 139 PVCC (power), 157 PVCC (power), 167 PVCC (power), 175 VCCR (power)
part D pins: 1 VSSR (power), 5 PLLVSS (power), 8 PVSS (power), 11 PVSS (power), 16 PVSS (power), 38 PVSS (power), 45 VSS (power), 55 PVSS (power), 74 PVSS (power), 94 AVSS (power), 103 PVSS (power), 122 PVSS (power), 125 PVSS (power), 137 PVSS (power), 155 PVSS (power), 169 PVSS (power)

## R5S72611RP100FP
designator U?
32-Bit RISC Microcomputer, SH7260 Series, SH-2A core, 100MHz, 32K RAM, 24x24mm 176-pin PLQFP, -40 to 85°C; Published: 28-Aug-2009; DatasheetVersion: Rev.2.00, Sep-2007; PackageVersion: Oct-2005; PackageReference: PLQP0176KB-A; Publisher: Altium Limited; PackageDescription: 176-Pin Plastic Low Profile QFP, 24 x 24 x 1.4 mm Body, 0.5 mm Pitch; Code_JEITA: P-LQFP176-24x24-0.50; ComponentLink1Description: Manufacturer Link; ComponentLink1URL: http://www.renesas.com/fmwk.jsp?cnt=sh7261_root.jsp&fp=/products/mpumcu/superh_family/sh7260_series/sh7261_group/; ComponentLink2Description: Datasheet; ComponentLink2URL: http://documentation.renesas.com/eng/products/mpumcu/rej09b0320_sh7261hm.pdf; ComponentLink3Description: Packaging Specification; ComponentLink3URL: http://sg.renesas.com/media/products/common_info/package/pdf/ic/code/plqp0176kb_a.pdf
footprint PLQP0176KB-A_N (Shrink QFP, 176-Leads, Body 24x24mm, Pitch 0.5mm, IPC Medium Density)
footprint PLQP0176KB-A_L (Shrink QFP, 176-Leads, Body 24x24mm, Pitch 0.5mm, IPC High Density)
footprint PLQP0176KB-A_M (Shrink QFP, 176-Leads, Body 24x24mm, Pitch 0.5mm, IPC Low Density)
part A pins: 2 ~{RES} (in), 4 NMI (in), 6 RTC_X1 (in), 7 RTC_X2 (out), 9 XTAL (out), 10 EXTAL (in), 12 CKIO/SDCLK (io), 14 MD_CLK0 (in), 15 MD_CLK1 (in), 17 PA0/A0 (io), 19 PA1/A1 (io), 20 PA2/A2 (io), 21 PA3/A3 (io), 22 PA4/A4 (io), 23 PA5/A5 (io), 24 PA6/A6 (io), 25 PA7/A7 (io), 26 PA8/A8 (io), 27 PA9/A9 (io), 28 PA10/A10 (io), 29 PA11/A11 (io), 30 PA12/A12 (io), 31 PA13/A13 (io), 32 PA14/A14 (io), 33 PA15/A15 (io), 34 PA16/A16 (io), 35 PA17/A17 (io), 36 PA18/A18 (io), 37 PA19/A19 (io), 39 PA20/A20 (io), 41 PA21/A21 (io), 42 PA22/A22 (io), 43 PA23/A23 (io), 46 PA24/A24/PINT0/DREQ3 (io), 47 PA25/A25/PINT1/DACK3 (io), 48 PA26/A26/PINT2/DACT3 (io), 49 PA27/A27/PINT3/DTEND3 (io), 50 PA28/CTx0/DREQ0 (io), 51 PA29/CRx0/DACK0 (io), 52 PA30/CTx1/DACT0 (io), 54 PA31/CRx1/DTEND0 (io), 56 PC25/IRQ3/SDA1 (io), 57 PC24/IRQ2/SCL1 (io), 58 PC23/IRQ1/SDA0 (io), 59 PC22/IRQ0/SCL0/DREQ2 (io), 60 PC21/BC3/DQM3/TCLKC/DACK2 (io), 61 PC20/BC2/DQM2/TCLKB (io), 62 PC19/BC1/DQM1 (io), 63 PC18/BC0/DQM0 (io), 64 PC17/~{SDWE} (io), 65 PC16/~{SDCAS} (io), 66 PC15/~{SDRAS} (io), 67 PC14/SDCKE (io), 68 PC13/~{WAIT} (io), 69 PC12/~{WR3}/TIOC2B/DTEND2 (io), 70 PC11/~{WR2}/TIOC2A/DACT2 (io), 71 PC10/~{WR1} (io), 72 PC9/~{WR0} (io), 73 PC8/~{RD} (io), 75 PC7/~{SDCS0} (io), 77 PC6/~{CS6}/TCLKA/SCK5 (io), 78 PC5/~{CS5}/TIOC1B/RxD5 (io), 79 PC4/~{CS4}/TIOC1A/TxD5 (io), 80 PC3/~{CS3}/~{UBCTRG} (io), 81 PC2/~{CS2}/~{SDCS1}/~{ADTRG} (io), 82 PC1/~{CS1} (io), 83 PC0/~{CS0} (io), 85 AVREF (power), 86 PE0/PINT4/AN0 (in), 87 PE1/PINT5/AN1 (in), 88 PE2/PINT6/AN2 (in), 89 PE3/PINT7/AN3 (in), 90 PE4/IRQ4/AN4 (in), 91 PE5/IRQ5/AN5 (in), 92 PE6/IRQ6/AN6/DA0 (io), 93 PE7/IRQ7/AN7/DA1 (io), 95 PF0/TxD7/~{AUDRST} (io), 96 PF1/RxD7/AUDMD (io), 97 PF2/TCLKD/SCK7/AUDCK (io), 98 PF3/~{AUDSYNC} (io), 99 PF4/AUDATA0 (io), 100 PF5/AUDATA1 (io), 102 PF6/AUDATA2 (io), 104 PF7/AUDATA3 (io), 105 PD16/SCL2 (io), 106 PD15/SDA2 (io), 107 PD14/DACK1 (io), 108 PD13/DREQ1 (io), 109 PD12/TMCI1/SCK1 (io), 110 PD11/TMRI1/RxD1 (io), 111 PD10/TMO1/TIOC0D/TxD1 (io), 112 PD9/TIOC0C/SCK0 (io), 113 PD8/TIOC0B/RxD0/DTEND1 (io), 114 PD7/TIOC0A/TxD0/DACT1 (io), 115 PD6/SCK4/SSIWS1 (io), 116 PD5/RxD4/SSISCK1 (io), 117 PD4/TxD4/SSIDATA1 (io), 118 PD3/SSIWS0 (io), 119 PD2/SSISCK0 (io), 120 PD1/SSIDATA0 (io), 121 PD0/AUDIO_CLK (io), 123 AUDIO_X2 (out), 124 AUDIO_X1 (in), 132 ~{ASEBRK}/~{ASEBRKAK} (io), 133 ~{ASEMD} (in), 134 MD1 (in), 135 MD0 (in), 136 ~{WDTOVF} (out), 138 PB0/D0 (io), 140 PB1/D1 (io), 141 PB2/D2 (io), 142 PB3/D3 (io), 143 PB4/D4 (io), 144 PB5/D5 (io), 145 PB6/D6 (io), 146 PB7/D7 (io), 147 PB8/D8 (io), 148 PB9/D9 (io), 149 PB10/D10 (io), 150 PB11/D11 (io), 151 PB12/D12 (io), 152 PB13/D13 (io), 153 PB14/D14 (io), 154 PB15/D15 (io), 156 PB16/D16/IRQ0/TIOC3A (io), 158 PB17/D17/IRQ1/TIOC3B (io), 159 PB18/D18/IRQ2/TIOC3C (io), 160 PB19/D19/IRQ3/TIOC3D (io), 161 PB20/D20/IRQ4/TIOC4A/TxD2 (io), 162 PB21/D21/IRQ5/TIOC4B/RxD2 (io), 163 PB22/D22/IRQ6/TIOC4C/SCK2 (io), 164 PB23/D23/IRQ7/TIOC4D (io), 165 PB24/D24/PINT0/TIC5U/TxD6 (io), 166 PB25/D25/PINT1/TIC5V/RxD6 (io), 168 PB26/D26/PINT2/TIC5W/SCK6 (io), 170 PB27/D27/PINT3 (io), 171 PB28/D28/PINT4/TMO0/TxD3 (io), 172 PB29/D29/PINT5/TMRI0/RxD3 (io), 173 PB30/D30/PINT6/TMCI0/SCK3 (io), 174 PB31/D31/PINT7 (io), 176 ~{MRES} (in)
part B pins: 126 ~{UDTRST} (in), 128 UDTMS (in), 129 UDTDO (out), 130 UDTDI (in), 131 UDTCK (in)
part C pins: 3 PLLVCC (power), 13 PVCC (power), 18 PVCC (power), 40 PVCC (power), 44 VCL (power), 53 PVCC (power), 76 PVCC (power), 84 AVCC (power), 101 PVCC (power), 127 PVCC (power), 139 PVCC (power), 157 PVCC (power), 167 PVCC (power), 175 VCCR (power)
part D pins: 1 VSSR (power), 5 PLLVSS (power), 8 PVSS (power), 11 PVSS (power), 16 PVSS (power), 38 PVSS (power), 45 VSS (power), 55 PVSS (power), 74 PVSS (power), 94 AVSS (power), 103 PVSS (power), 122 PVSS (power), 125 PVSS (power), 137 PVSS (power), 155 PVSS (power), 169 PVSS (power)

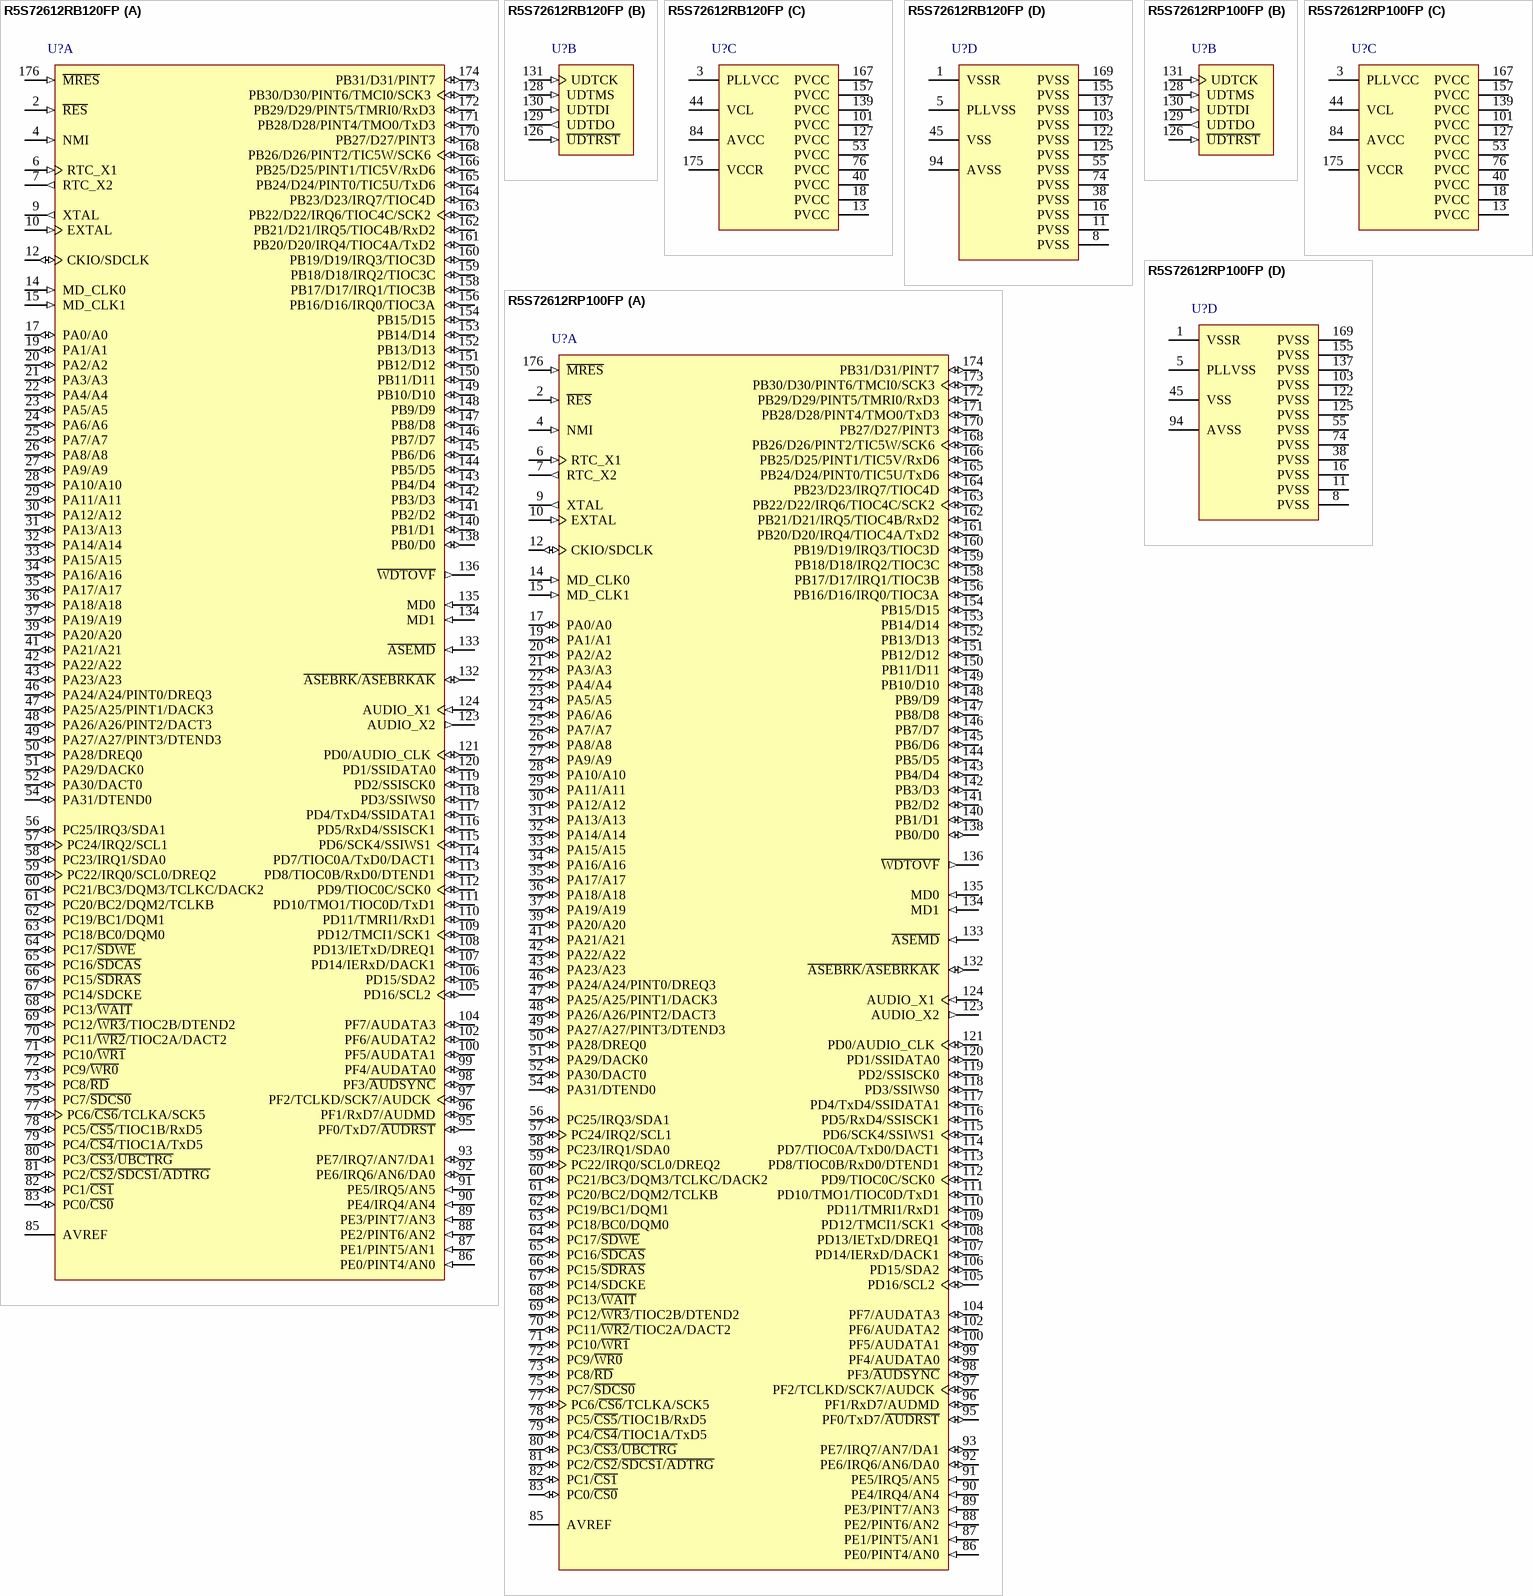
[diagram p208: symbols R5S72612RB120FP to R5S72612RP100FP]

## R5S72612RB120FP
designator U?
32-Bit RISC Microcomputer, SH7260 Series, SH-2A core, 120MHz, 32K RAM, 24x24mm 176-pin PLQFP, -20 to 70°C; Published: 28-Aug-2009; DatasheetVersion: Rev.2.00, Sep-2007; PackageVersion: Oct-2005; PackageReference: PLQP0176KB-A; Publisher: Altium Limited; PackageDescription: 176-Pin Plastic Low Profile QFP, 24 x 24 x 1.4 mm Body, 0.5 mm Pitch; Code_JEITA: P-LQFP176-24x24-0.50; ComponentLink1Description: Manufacturer Link; ComponentLink1URL: http://www.renesas.com/fmwk.jsp?cnt=sh7261_root.jsp&fp=/products/mpumcu/superh_family/sh7260_series/sh7261_group/; ComponentLink2Description: Datasheet; ComponentLink2URL: http://documentation.renesas.com/eng/products/mpumcu/rej09b0320_sh7261hm.pdf; ComponentLink3Description: Packaging Specification; ComponentLink3URL: http://sg.renesas.com/media/products/common_info/package/pdf/ic/code/plqp0176kb_a.pdf
footprint PLQP0176KB-A_N (Shrink QFP, 176-Leads, Body 24x24mm, Pitch 0.5mm, IPC Medium Density)
footprint PLQP0176KB-A_L (Shrink QFP, 176-Leads, Body 24x24mm, Pitch 0.5mm, IPC High Density)
footprint PLQP0176KB-A_M (Shrink QFP, 176-Leads, Body 24x24mm, Pitch 0.5mm, IPC Low Density)
part A pins: 2 ~{RES} (in), 4 NMI (in), 6 RTC_X1 (in), 7 RTC_X2 (out), 9 XTAL (out), 10 EXTAL (in), 12 CKIO/SDCLK (io), 14 MD_CLK0 (in), 15 MD_CLK1 (in), 17 PA0/A0 (io), 19 PA1/A1 (io), 20 PA2/A2 (io), 21 PA3/A3 (io), 22 PA4/A4 (io), 23 PA5/A5 (io), 24 PA6/A6 (io), 25 PA7/A7 (io), 26 PA8/A8 (io), 27 PA9/A9 (io), 28 PA10/A10 (io), 29 PA11/A11 (io), 30 PA12/A12 (io), 31 PA13/A13 (io), 32 PA14/A14 (io), 33 PA15/A15 (io), 34 PA16/A16 (io), 35 PA17/A17 (io), 36 PA18/A18 (io), 37 PA19/A19 (io), 39 PA20/A20 (io), 41 PA21/A21 (io), 42 PA22/A22 (io), 43 PA23/A23 (io), 46 PA24/A24/PINT0/DREQ3 (io), 47 PA25/A25/PINT1/DACK3 (io), 48 PA26/A26/PINT2/DACT3 (io), 49 PA27/A27/PINT3/DTEND3 (io), 50 PA28/DREQ0 (io), 51 PA29/DACK0 (io), 52 PA30/DACT0 (io), 54 PA31/DTEND0 (io), 56 PC25/IRQ3/SDA1 (io), 57 PC24/IRQ2/SCL1 (io), 58 PC23/IRQ1/SDA0 (io), 59 PC22/IRQ0/SCL0/DREQ2 (io), 60 PC21/BC3/DQM3/TCLKC/DACK2 (io), 61 PC20/BC2/DQM2/TCLKB (io), 62 PC19/BC1/DQM1 (io), 63 PC18/BC0/DQM0 (io), 64 PC17/~{SDWE} (io), 65 PC16/~{SDCAS} (io), 66 PC15/~{SDRAS} (io), 67 PC14/SDCKE (io), 68 PC13/~{WAIT} (io), 69 PC12/~{WR3}/TIOC2B/DTEND2 (io), 70 PC11/~{WR2}/TIOC2A/DACT2 (io), 71 PC10/~{WR1} (io), 72 PC9/~{WR0} (io), 73 PC8/~{RD} (io), 75 PC7/~{SDCS0} (io), 77 PC6/~{CS6}/TCLKA/SCK5 (io), 78 PC5/~{CS5}/TIOC1B/RxD5 (io), 79 PC4/~{CS4}/TIOC1A/TxD5 (io), 80 PC3/~{CS3}/~{UBCTRG} (io), 81 PC2/~{CS2}/~{SDCS1}/~{ADTRG} (io), 82 PC1/~{CS1} (io), 83 PC0/~{CS0} (io), 85 AVREF (power), 86 PE0/PINT4/AN0 (in), 87 PE1/PINT5/AN1 (in), 88 PE2/PINT6/AN2 (in), 89 PE3/PINT7/AN3 (in), 90 PE4/IRQ4/AN4 (in), 91 PE5/IRQ5/AN5 (in), 92 PE6/IRQ6/AN6/DA0 (io), 93 PE7/IRQ7/AN7/DA1 (io), 95 PF0/TxD7/~{AUDRST} (io), 96 PF1/RxD7/AUDMD (io), 97 PF2/TCLKD/SCK7/AUDCK (io), 98 PF3/~{AUDSYNC} (io), 99 PF4/AUDATA0 (io), 100 PF5/AUDATA1 (io), 102 PF6/AUDATA2 (io), 104 PF7/AUDATA3 (io), 105 PD16/SCL2 (io), 106 PD15/SDA2 (io), 107 PD14/IERxD/DACK1 (io), 108 PD13/IETxD/DREQ1 (io), 109 PD12/TMCI1/SCK1 (io), 110 PD11/TMRI1/RxD1 (io), 111 PD10/TMO1/TIOC0D/TxD1 (io), 112 PD9/TIOC0C/SCK0 (io), 113 PD8/TIOC0B/RxD0/DTEND1 (io), 114 PD7/TIOC0A/TxD0/DACT1 (io), 115 PD6/SCK4/SSIWS1 (io), 116 PD5/RxD4/SSISCK1 (io), 117 PD4/TxD4/SSIDATA1 (io), 118 PD3/SSIWS0 (io), 119 PD2/SSISCK0 (io), 120 PD1/SSIDATA0 (io), 121 PD0/AUDIO_CLK (io), 123 AUDIO_X2 (out), 124 AUDIO_X1 (in), 132 ~{ASEBRK}/~{ASEBRKAK} (io), 133 ~{ASEMD} (in), 134 MD1 (in), 135 MD0 (in), 136 ~{WDTOVF} (out), 138 PB0/D0 (io), 140 PB1/D1 (io), 141 PB2/D2 (io), 142 PB3/D3 (io), 143 PB4/D4 (io), 144 PB5/D5 (io), 145 PB6/D6 (io), 146 PB7/D7 (io), 147 PB8/D8 (io), 148 PB9/D9 (io), 149 PB10/D10 (io), 150 PB11/D11 (io), 151 PB12/D12 (io), 152 PB13/D13 (io), 153 PB14/D14 (io), 154 PB15/D15 (io), 156 PB16/D16/IRQ0/TIOC3A (io), 158 PB17/D17/IRQ1/TIOC3B (io), 159 PB18/D18/IRQ2/TIOC3C (io), 160 PB19/D19/IRQ3/TIOC3D (io), 161 PB20/D20/IRQ4/TIOC4A/TxD2 (io), 162 PB21/D21/IRQ5/TIOC4B/RxD2 (io), 163 PB22/D22/IRQ6/TIOC4C/SCK2 (io), 164 PB23/D23/IRQ7/TIOC4D (io), 165 PB24/D24/PINT0/TIC5U/TxD6 (io), 166 PB25/D25/PINT1/TIC5V/RxD6 (io), 168 PB26/D26/PINT2/TIC5W/SCK6 (io), 170 PB27/D27/PINT3 (io), 171 PB28/D28/PINT4/TMO0/TxD3 (io), 172 PB29/D29/PINT5/TMRI0/RxD3 (io), 173 PB30/D30/PINT6/TMCI0/SCK3 (io), 174 PB31/D31/PINT7 (io), 176 ~{MRES} (in)
part B pins: 126 ~{UDTRST} (in), 128 UDTMS (in), 129 UDTDO (out), 130 UDTDI (in), 131 UDTCK (in)
part C pins: 3 PLLVCC (power), 13 PVCC (power), 18 PVCC (power), 40 PVCC (power), 44 VCL (power), 53 PVCC (power), 76 PVCC (power), 84 AVCC (power), 101 PVCC (power), 127 PVCC (power), 139 PVCC (power), 157 PVCC (power), 167 PVCC (power), 175 VCCR (power)
part D pins: 1 VSSR (power), 5 PLLVSS (power), 8 PVSS (power), 11 PVSS (power), 16 PVSS (power), 38 PVSS (power), 45 VSS (power), 55 PVSS (power), 74 PVSS (power), 94 AVSS (power), 103 PVSS (power), 122 PVSS (power), 125 PVSS (power), 137 PVSS (power), 155 PVSS (power), 169 PVSS (power)

## R5S72612RP100FP
designator U?
32-Bit RISC Microcomputer, SH7260 Series, SH-2A core, 100MHz, 32K RAM, 24x24mm 176-pin PLQFP, -40 to 85°C; Published: 28-Aug-2009; DatasheetVersion: Rev.2.00, Sep-2007; PackageVersion: Oct-2005; PackageReference: PLQP0176KB-A; Publisher: Altium Limited; PackageDescription: 176-Pin Plastic Low Profile QFP, 24 x 24 x 1.4 mm Body, 0.5 mm Pitch; Code_JEITA: P-LQFP176-24x24-0.50; ComponentLink1Description: Manufacturer Link; ComponentLink1URL: http://www.renesas.com/fmwk.jsp?cnt=sh7261_root.jsp&fp=/products/mpumcu/superh_family/sh7260_series/sh7261_group/; ComponentLink2Description: Datasheet; ComponentLink2URL: http://documentation.renesas.com/eng/products/mpumcu/rej09b0320_sh7261hm.pdf; ComponentLink3Description: Packaging Specification; ComponentLink3URL: http://sg.renesas.com/media/products/common_info/package/pdf/ic/code/plqp0176kb_a.pdf
footprint PLQP0176KB-A_N (Shrink QFP, 176-Leads, Body 24x24mm, Pitch 0.5mm, IPC Medium Density)
footprint PLQP0176KB-A_L (Shrink QFP, 176-Leads, Body 24x24mm, Pitch 0.5mm, IPC High Density)
footprint PLQP0176KB-A_M (Shrink QFP, 176-Leads, Body 24x24mm, Pitch 0.5mm, IPC Low Density)
part A pins: 2 ~{RES} (in), 4 NMI (in), 6 RTC_X1 (in), 7 RTC_X2 (out), 9 XTAL (out), 10 EXTAL (in), 12 CKIO/SDCLK (io), 14 MD_CLK0 (in), 15 MD_CLK1 (in), 17 PA0/A0 (io), 19 PA1/A1 (io), 20 PA2/A2 (io), 21 PA3/A3 (io), 22 PA4/A4 (io), 23 PA5/A5 (io), 24 PA6/A6 (io), 25 PA7/A7 (io), 26 PA8/A8 (io), 27 PA9/A9 (io), 28 PA10/A10 (io), 29 PA11/A11 (io), 30 PA12/A12 (io), 31 PA13/A13 (io), 32 PA14/A14 (io), 33 PA15/A15 (io), 34 PA16/A16 (io), 35 PA17/A17 (io), 36 PA18/A18 (io), 37 PA19/A19 (io), 39 PA20/A20 (io), 41 PA21/A21 (io), 42 PA22/A22 (io), 43 PA23/A23 (io), 46 PA24/A24/PINT0/DREQ3 (io), 47 PA25/A25/PINT1/DACK3 (io), 48 PA26/A26/PINT2/DACT3 (io), 49 PA27/A27/PINT3/DTEND3 (io), 50 PA28/DREQ0 (io), 51 PA29/DACK0 (io), 52 PA30/DACT0 (io), 54 PA31/DTEND0 (io), 56 PC25/IRQ3/SDA1 (io), 57 PC24/IRQ2/SCL1 (io), 58 PC23/IRQ1/SDA0 (io), 59 PC22/IRQ0/SCL0/DREQ2 (io), 60 PC21/BC3/DQM3/TCLKC/DACK2 (io), 61 PC20/BC2/DQM2/TCLKB (io), 62 PC19/BC1/DQM1 (io), 63 PC18/BC0/DQM0 (io), 64 PC17/~{SDWE} (io), 65 PC16/~{SDCAS} (io), 66 PC15/~{SDRAS} (io), 67 PC14/SDCKE (io), 68 PC13/~{WAIT} (io), 69 PC12/~{WR3}/TIOC2B/DTEND2 (io), 70 PC11/~{WR2}/TIOC2A/DACT2 (io), 71 PC10/~{WR1} (io), 72 PC9/~{WR0} (io), 73 PC8/~{RD} (io), 75 PC7/~{SDCS0} (io), 77 PC6/~{CS6}/TCLKA/SCK5 (io), 78 PC5/~{CS5}/TIOC1B/RxD5 (io), 79 PC4/~{CS4}/TIOC1A/TxD5 (io), 80 PC3/~{CS3}/~{UBCTRG} (io), 81 PC2/~{CS2}/~{SDCS1}/~{ADTRG} (io), 82 PC1/~{CS1} (io), 83 PC0/~{CS0} (io), 85 AVREF (power), 86 PE0/PINT4/AN0 (in), 87 PE1/PINT5/AN1 (in), 88 PE2/PINT6/AN2 (in), 89 PE3/PINT7/AN3 (in), 90 PE4/IRQ4/AN4 (in), 91 PE5/IRQ5/AN5 (in), 92 PE6/IRQ6/AN6/DA0 (io), 93 PE7/IRQ7/AN7/DA1 (io), 95 PF0/TxD7/~{AUDRST} (io), 96 PF1/RxD7/AUDMD (io), 97 PF2/TCLKD/SCK7/AUDCK (io), 98 PF3/~{AUDSYNC} (io), 99 PF4/AUDATA0 (io), 100 PF5/AUDATA1 (io), 102 PF6/AUDATA2 (io), 104 PF7/AUDATA3 (io), 105 PD16/SCL2 (io), 106 PD15/SDA2 (io), 107 PD14/IERxD/DACK1 (io), 108 PD13/IETxD/DREQ1 (io), 109 PD12/TMCI1/SCK1 (io), 110 PD11/TMRI1/RxD1 (io), 111 PD10/TMO1/TIOC0D/TxD1 (io), 112 PD9/TIOC0C/SCK0 (io), 113 PD8/TIOC0B/RxD0/DTEND1 (io), 114 PD7/TIOC0A/TxD0/DACT1 (io), 115 PD6/SCK4/SSIWS1 (io), 116 PD5/RxD4/SSISCK1 (io), 117 PD4/TxD4/SSIDATA1 (io), 118 PD3/SSIWS0 (io), 119 PD2/SSISCK0 (io), 120 PD1/SSIDATA0 (io), 121 PD0/AUDIO_CLK (io), 123 AUDIO_X2 (out), 124 AUDIO_X1 (in), 132 ~{ASEBRK}/~{ASEBRKAK} (io), 133 ~{ASEMD} (in), 134 MD1 (in), 135 MD0 (in), 136 ~{WDTOVF} (out), 138 PB0/D0 (io), 140 PB1/D1 (io), 141 PB2/D2 (io), 142 PB3/D3 (io), 143 PB4/D4 (io), 144 PB5/D5 (io), 145 PB6/D6 (io), 146 PB7/D7 (io), 147 PB8/D8 (io), 148 PB9/D9 (io), 149 PB10/D10 (io), 150 PB11/D11 (io), 151 PB12/D12 (io), 152 PB13/D13 (io), 153 PB14/D14 (io), 154 PB15/D15 (io), 156 PB16/D16/IRQ0/TIOC3A (io), 158 PB17/D17/IRQ1/TIOC3B (io), 159 PB18/D18/IRQ2/TIOC3C (io), 160 PB19/D19/IRQ3/TIOC3D (io), 161 PB20/D20/IRQ4/TIOC4A/TxD2 (io), 162 PB21/D21/IRQ5/TIOC4B/RxD2 (io), 163 PB22/D22/IRQ6/TIOC4C/SCK2 (io), 164 PB23/D23/IRQ7/TIOC4D (io), 165 PB24/D24/PINT0/TIC5U/TxD6 (io), 166 PB25/D25/PINT1/TIC5V/RxD6 (io), 168 PB26/D26/PINT2/TIC5W/SCK6 (io), 170 PB27/D27/PINT3 (io), 171 PB28/D28/PINT4/TMO0/TxD3 (io), 172 PB29/D29/PINT5/TMRI0/RxD3 (io), 173 PB30/D30/PINT6/TMCI0/SCK3 (io), 174 PB31/D31/PINT7 (io), 176 ~{MRES} (in)
part B pins: 126 ~{UDTRST} (in), 128 UDTMS (in), 129 UDTDO (out), 130 UDTDI (in), 131 UDTCK (in)
part C pins: 3 PLLVCC (power), 13 PVCC (power), 18 PVCC (power), 40 PVCC (power), 44 VCL (power), 53 PVCC (power), 76 PVCC (power), 84 AVCC (power), 101 PVCC (power), 127 PVCC (power), 139 PVCC (power), 157 PVCC (power), 167 PVCC (power), 175 VCCR (power)
part D pins: 1 VSSR (power), 5 PLLVSS (power), 8 PVSS (power), 11 PVSS (power), 16 PVSS (power), 38 PVSS (power), 45 VSS (power), 55 PVSS (power), 74 PVSS (power), 94 AVSS (power), 103 PVSS (power), 122 PVSS (power), 125 PVSS (power), 137 PVSS (power), 155 PVSS (power), 169 PVSS (power)

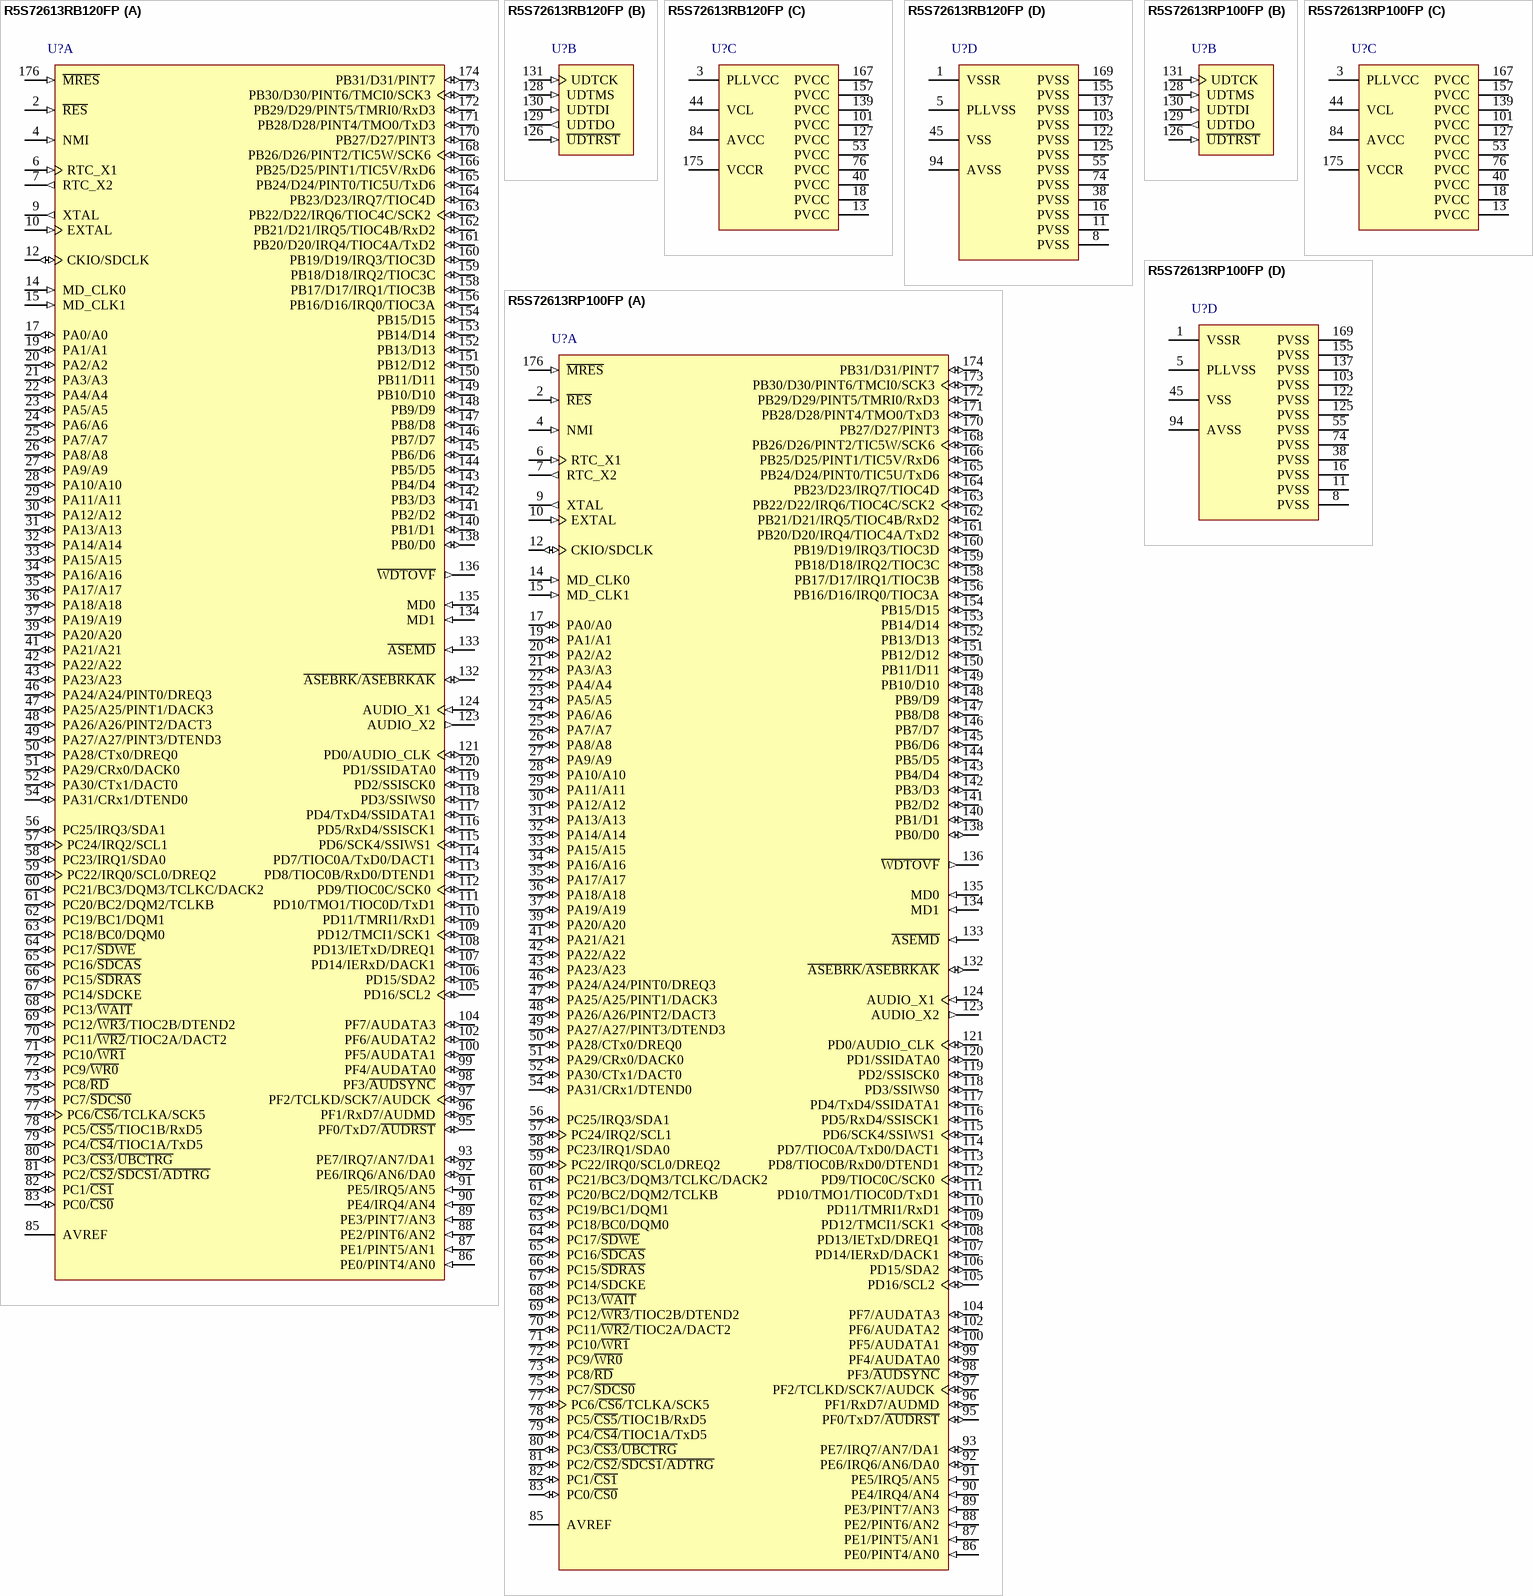
[diagram p209: symbols R5S72613RB120FP to R5S72613RP100FP]